# Altium integrated library Altera APEX 20KE.IntLib: 235 symbols (part 8 of 49)
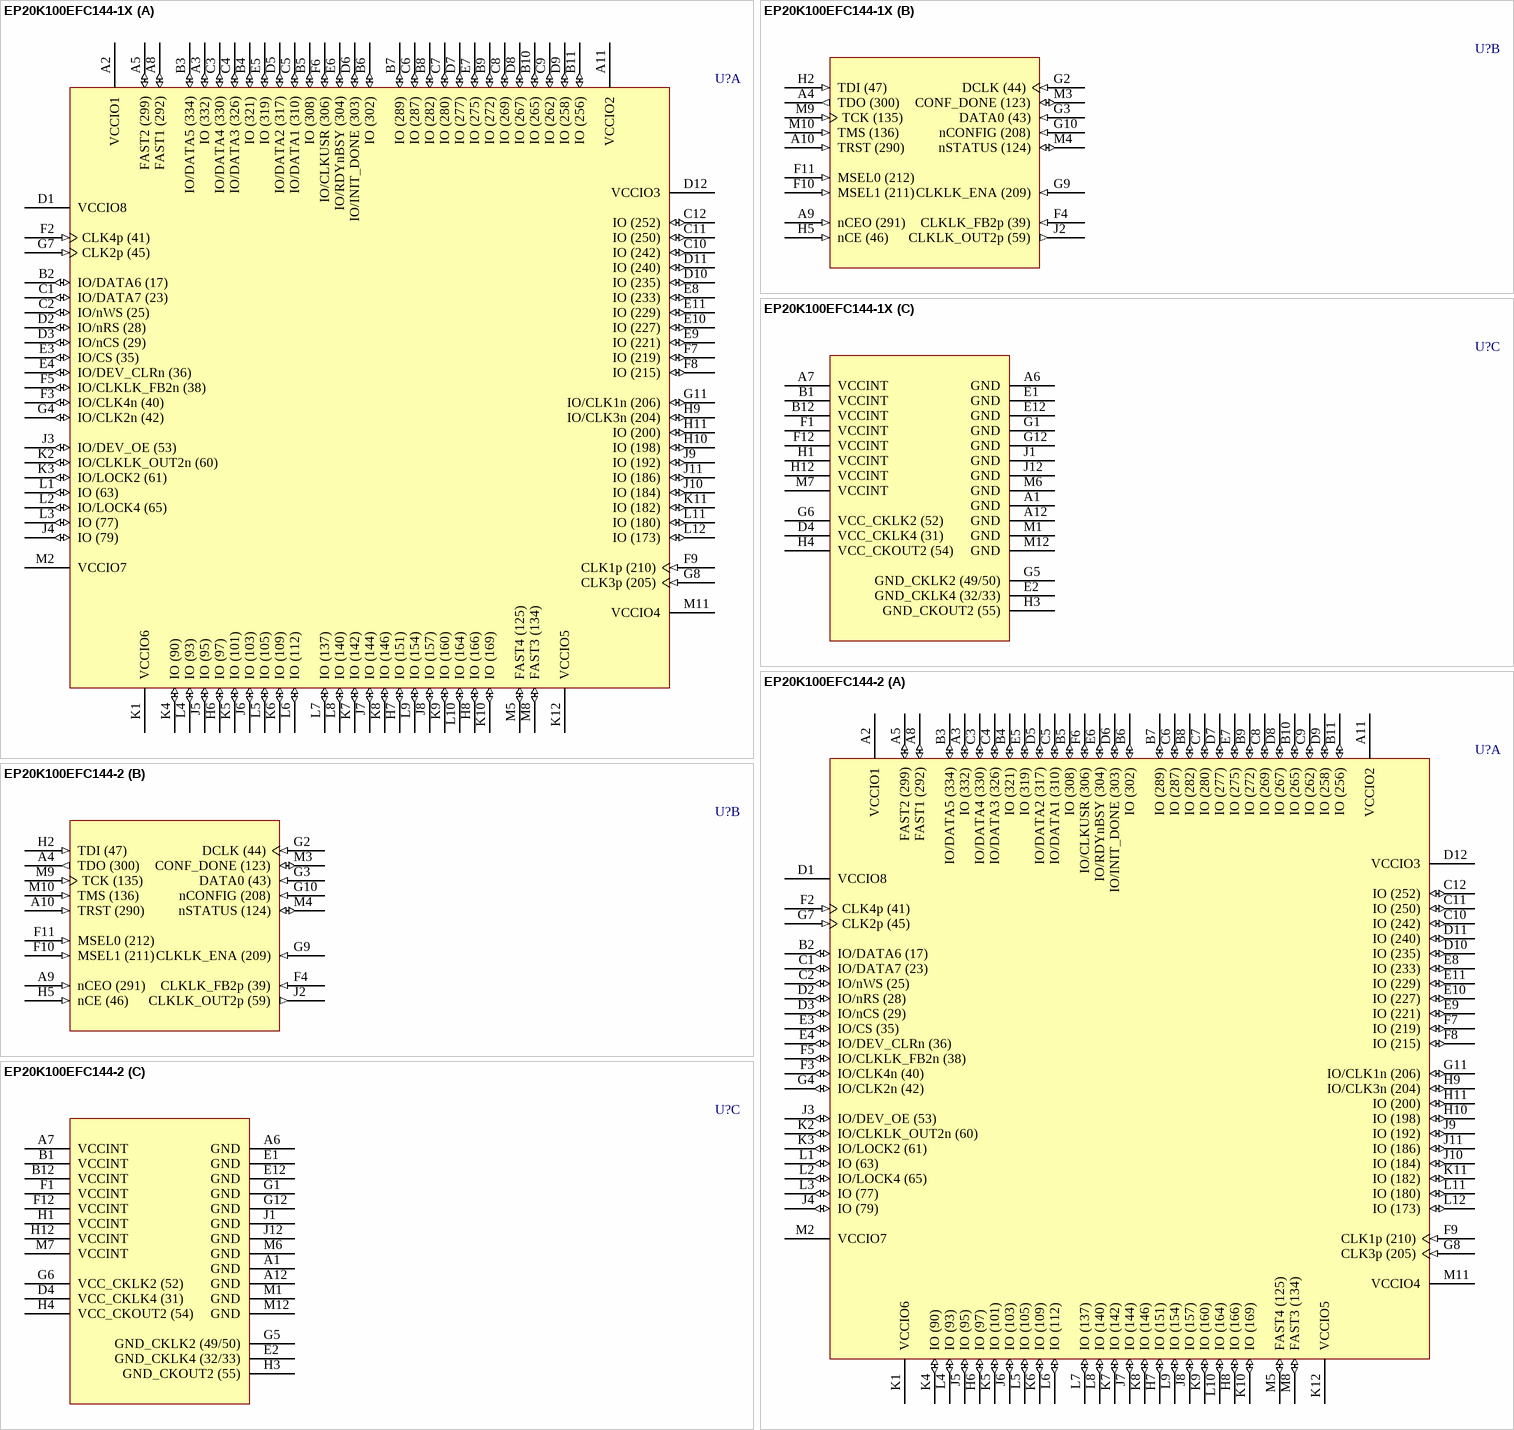
[diagram p406: symbols EP20K100EFC144-1X to EP20K100EFC144-2]

## EP20K100EFC144-2
designator U?
APEX 20K100E PLD, 144-Pin FBGA, Commercial Grade, Speed Grade 2; Published: 17-Jul-2002; LatestRevisionDate: 13-Apr-2006; LatestRevisionNote: IPC-7351 Footprint Added.; DatasheetVersion: Mar-2004; PackageVersion: ver14.1, Oct-2005; PackageReference: FBGA144; Publisher: Altium Limited; PackageDescription: 144-Ball FineLine Ball Grid Array (FBGA144); Code_JEDEC: MO-192-AAD-1; Code_IPC: BGA100P12X12-144; ComponentLink1Description: Manufacturer Link; ComponentLink1URL: http://www.altera.com/products/devices/apex/apx-index.html; ComponentLink2Description: Datasheet; ComponentLink2URL: http://www.altera.com/literature/ds/apex.pdf
footprint FBGA144 (BGA, 144-Leads, Body 13x13mm, Pitch 1mm)
3D model EP20K100E-FBGA144 (144-Ball FineLine Ball Grid Array (FBGA144))
part A pins: A2 VCCIO1 (power), A3 IO (332) (io), A5 FAST2 (299) (io), A8 FAST1 (292) (io), A11 VCCIO2 (power), B2 IO/DATA6 (17) (io), B3 IO/DATA5 (334) (io), B4 IO (321) (io), B5 IO (308) (io), B6 IO (302) (io), B7 IO (289) (io), B8 IO (282) (io), B9 IO (272) (io), B10 IO (265) (io), B11 IO (256) (io), C1 IO/DATA7 (23) (io), C2 IO/nWS (25) (io), C3 IO/DATA4 (330) (io), C4 IO/DATA3 (326) (io), C5 IO/DATA1 (310) (io), C6 IO (287) (io), C7 IO (280) (io), C8 IO (269) (io), C9 IO (262) (io), C10 IO (242) (io), C11 IO (250) (io), C12 IO (252) (io), D1 VCCIO8 (power), D2 IO/nRS (28) (io), D3 IO/nCS (29) (io), D5 IO/DATA2 (317) (io), D6 IO/INIT_DONE (303) (io), D7 IO (277) (io), D8 IO (267) (io), D9 IO (258) (io), D10 IO (235) (io), D11 IO (240) (io), D12 VCCIO3 (power), E3 IO/CS (35) (io), E4 IO/DEV_CLRn (36) (io), E5 IO (319) (io), E6 IO/RDYnBSY (304) (io), E7 IO (275) (io), E8 IO (233) (io), E9 IO (221) (io), E10 IO (227) (io), E11 IO (229) (io), F2 CLK4p (41) (in), F3 IO/CLK4n (40) (io), F5 IO/CLKLK_FB2n (38) (io), F6 IO/CLKUSR (306) (io), F7 IO (219) (io), F8 IO (215) (io), F9 CLK1p (210) (in), G4 IO/CLK2n (42) (io), G7 CLK2p (45) (in), G8 CLK3p (205) (in), G11 IO/CLK1n (206) (io), H6 IO (97) (io), H7 IO (151) (io), H8 IO (166) (io), H9 IO/CLK3n (204) (io), H10 IO (198) (io), H11 IO (200) (io), J3 IO/DEV_OE (53) (io), J4 IO (79) (io), J5 IO (95) (io), J6 IO (103) (io), J7 IO (144) (io), J8 IO (157) (io), J9 IO (192) (io), J10 IO (184) (io), J11 IO (186) (io), K1 VCCIO6 (power), K2 IO/CLKLK_OUT2n (60) (io), K3 IO/LOCK2 (61) (io), K4 IO (90) (io), K5 IO (101) (io), K6 IO (109) (io), K7 IO (142) (io), K8 IO (146) (io), K9 IO (160) (io), K10 IO (169) (io), K11 IO (182) (io), K12 VCCIO5 (power), L1 IO (63) (io), L2 IO/LOCK4 (65) (io), L3 IO (77) (io), L4 IO (93) (io), L5 IO (105) (io), L6 IO (112) (io), L7 IO (137) (io), L8 IO (140) (io), L9 IO (154) (io), L10 IO (164) (io), L11 IO (180) (io), L12 IO (173) (io), M2 VCCIO7 (power), M5 FAST4 (125) (io), M8 FAST3 (134) (io), M11 VCCIO4 (power)
part B pins: A4 TDO (300) (out), A9 nCEO (291) (in), A10 TRST (290) (in), F4 CLKLK_FB2p (39) (in), F10 MSEL1 (211) (in), F11 MSEL0 (212) (in), G2 DCLK (44) (in), G3 DATA0 (43) (in), G9 CLKLK_ENA (209) (in), G10 nCONFIG (208) (in), H2 TDI (47) (in), H5 nCE (46) (in), J2 CLKLK_OUT2p (59) (out), M3 CONF_DONE (123) (io), M4 nSTATUS (124) (io), M9 TCK (135) (in), M10 TMS (136) (in)
part C pins: A1 GND (power), A6 GND (power), A7 VCCINT (power), A12 GND (power), B1 VCCINT (power), B12 VCCINT (power), D4 VCC_CKLK4 (31) (power), E1 GND (power), E2 GND_CKLK4 (32/33) (power), E12 GND (power), F1 VCCINT (power), F12 VCCINT (power), G1 GND (power), G5 GND_CKLK2 (49/50) (power), G6 VCC_CKLK2 (52) (power), G12 GND (power), H1 VCCINT (power), H3 GND_CKOUT2 (55) (power), H4 VCC_CKOUT2 (54) (power), H12 VCCINT (power), J1 GND (power), J12 GND (power), M1 GND (power), M6 GND (power), M7 VCCINT (power), M12 GND (power)

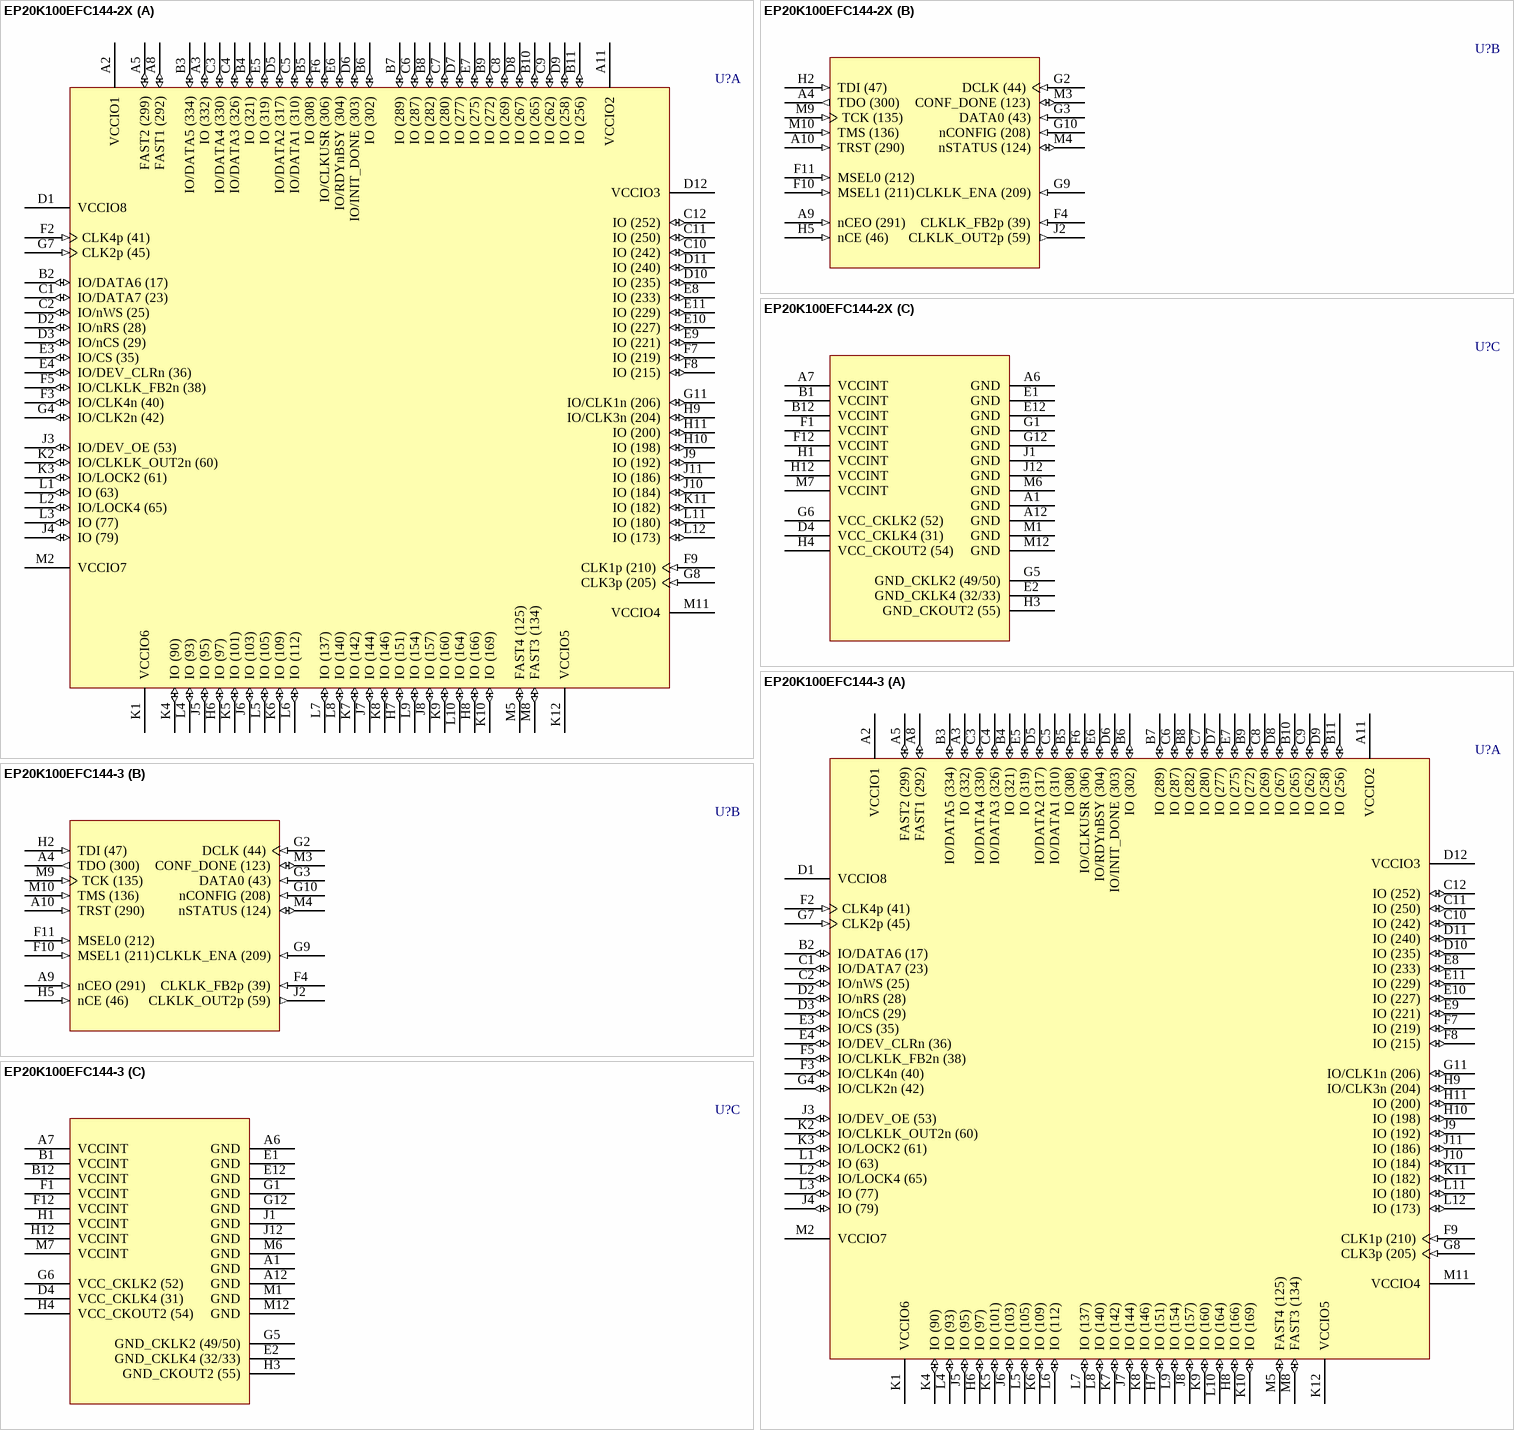
[diagram p77: symbols EP20K100EFC144-2X to EP20K100EFC144-3]

## EP20K100EFC144-2X
designator U?
APEX 20K100E PLD with PLLs and LVDS, 144-Pin FBGA, Commercial Grade, Speed Grade 2; Published: 17-Jul-2002; LatestRevisionDate: 13-Apr-2006; LatestRevisionNote: IPC-7351 Footprint Added.; DatasheetVersion: Mar-2004; PackageVersion: ver14.1, Oct-2005; PackageReference: FBGA144; Publisher: Altium Limited; PackageDescription: 144-Ball FineLine Ball Grid Array (FBGA144); Code_JEDEC: MO-192-AAD-1; Code_IPC: BGA100P12X12-144; ComponentLink1Description: Manufacturer Link; ComponentLink1URL: http://www.altera.com/products/devices/apex/apx-index.html; ComponentLink2Description: Datasheet; ComponentLink2URL: http://www.altera.com/literature/ds/apex.pdf
footprint FBGA144 (BGA, 144-Leads, Body 13x13mm, Pitch 1mm)
3D model EP20K100E-FBGA144 (144-Ball FineLine Ball Grid Array (FBGA144))
part A pins: A2 VCCIO1 (power), A3 IO (332) (io), A5 FAST2 (299) (io), A8 FAST1 (292) (io), A11 VCCIO2 (power), B2 IO/DATA6 (17) (io), B3 IO/DATA5 (334) (io), B4 IO (321) (io), B5 IO (308) (io), B6 IO (302) (io), B7 IO (289) (io), B8 IO (282) (io), B9 IO (272) (io), B10 IO (265) (io), B11 IO (256) (io), C1 IO/DATA7 (23) (io), C2 IO/nWS (25) (io), C3 IO/DATA4 (330) (io), C4 IO/DATA3 (326) (io), C5 IO/DATA1 (310) (io), C6 IO (287) (io), C7 IO (280) (io), C8 IO (269) (io), C9 IO (262) (io), C10 IO (242) (io), C11 IO (250) (io), C12 IO (252) (io), D1 VCCIO8 (power), D2 IO/nRS (28) (io), D3 IO/nCS (29) (io), D5 IO/DATA2 (317) (io), D6 IO/INIT_DONE (303) (io), D7 IO (277) (io), D8 IO (267) (io), D9 IO (258) (io), D10 IO (235) (io), D11 IO (240) (io), D12 VCCIO3 (power), E3 IO/CS (35) (io), E4 IO/DEV_CLRn (36) (io), E5 IO (319) (io), E6 IO/RDYnBSY (304) (io), E7 IO (275) (io), E8 IO (233) (io), E9 IO (221) (io), E10 IO (227) (io), E11 IO (229) (io), F2 CLK4p (41) (in), F3 IO/CLK4n (40) (io), F5 IO/CLKLK_FB2n (38) (io), F6 IO/CLKUSR (306) (io), F7 IO (219) (io), F8 IO (215) (io), F9 CLK1p (210) (in), G4 IO/CLK2n (42) (io), G7 CLK2p (45) (in), G8 CLK3p (205) (in), G11 IO/CLK1n (206) (io), H6 IO (97) (io), H7 IO (151) (io), H8 IO (166) (io), H9 IO/CLK3n (204) (io), H10 IO (198) (io), H11 IO (200) (io), J3 IO/DEV_OE (53) (io), J4 IO (79) (io), J5 IO (95) (io), J6 IO (103) (io), J7 IO (144) (io), J8 IO (157) (io), J9 IO (192) (io), J10 IO (184) (io), J11 IO (186) (io), K1 VCCIO6 (power), K2 IO/CLKLK_OUT2n (60) (io), K3 IO/LOCK2 (61) (io), K4 IO (90) (io), K5 IO (101) (io), K6 IO (109) (io), K7 IO (142) (io), K8 IO (146) (io), K9 IO (160) (io), K10 IO (169) (io), K11 IO (182) (io), K12 VCCIO5 (power), L1 IO (63) (io), L2 IO/LOCK4 (65) (io), L3 IO (77) (io), L4 IO (93) (io), L5 IO (105) (io), L6 IO (112) (io), L7 IO (137) (io), L8 IO (140) (io), L9 IO (154) (io), L10 IO (164) (io), L11 IO (180) (io), L12 IO (173) (io), M2 VCCIO7 (power), M5 FAST4 (125) (io), M8 FAST3 (134) (io), M11 VCCIO4 (power)
part B pins: A4 TDO (300) (out), A9 nCEO (291) (in), A10 TRST (290) (in), F4 CLKLK_FB2p (39) (in), F10 MSEL1 (211) (in), F11 MSEL0 (212) (in), G2 DCLK (44) (in), G3 DATA0 (43) (in), G9 CLKLK_ENA (209) (in), G10 nCONFIG (208) (in), H2 TDI (47) (in), H5 nCE (46) (in), J2 CLKLK_OUT2p (59) (out), M3 CONF_DONE (123) (io), M4 nSTATUS (124) (io), M9 TCK (135) (in), M10 TMS (136) (in)
part C pins: A1 GND (power), A6 GND (power), A7 VCCINT (power), A12 GND (power), B1 VCCINT (power), B12 VCCINT (power), D4 VCC_CKLK4 (31) (power), E1 GND (power), E2 GND_CKLK4 (32/33) (power), E12 GND (power), F1 VCCINT (power), F12 VCCINT (power), G1 GND (power), G5 GND_CKLK2 (49/50) (power), G6 VCC_CKLK2 (52) (power), G12 GND (power), H1 VCCINT (power), H3 GND_CKOUT2 (55) (power), H4 VCC_CKOUT2 (54) (power), H12 VCCINT (power), J1 GND (power), J12 GND (power), M1 GND (power), M6 GND (power), M7 VCCINT (power), M12 GND (power)

## EP20K100EFC144-3
designator U?
APEX 20K100E PLD, 144-Pin FBGA, Commercial Grade, Speed Grade 3; Published: 17-Jul-2002; LatestRevisionDate: 13-Apr-2006; LatestRevisionNote: IPC-7351 Footprint Added.; DatasheetVersion: Mar-2004; PackageVersion: ver14.1, Oct-2005; PackageReference: FBGA144; Publisher: Altium Limited; PackageDescription: 144-Ball FineLine Ball Grid Array (FBGA144); Code_JEDEC: MO-192-AAD-1; Code_IPC: BGA100P12X12-144; ComponentLink1Description: Manufacturer Link; ComponentLink1URL: http://www.altera.com/products/devices/apex/apx-index.html; ComponentLink2Description: Datasheet; ComponentLink2URL: http://www.altera.com/literature/ds/apex.pdf
footprint FBGA144 (BGA, 144-Leads, Body 13x13mm, Pitch 1mm)
3D model EP20K100E-FBGA144 (144-Ball FineLine Ball Grid Array (FBGA144))
part A pins: A2 VCCIO1 (power), A3 IO (332) (io), A5 FAST2 (299) (io), A8 FAST1 (292) (io), A11 VCCIO2 (power), B2 IO/DATA6 (17) (io), B3 IO/DATA5 (334) (io), B4 IO (321) (io), B5 IO (308) (io), B6 IO (302) (io), B7 IO (289) (io), B8 IO (282) (io), B9 IO (272) (io), B10 IO (265) (io), B11 IO (256) (io), C1 IO/DATA7 (23) (io), C2 IO/nWS (25) (io), C3 IO/DATA4 (330) (io), C4 IO/DATA3 (326) (io), C5 IO/DATA1 (310) (io), C6 IO (287) (io), C7 IO (280) (io), C8 IO (269) (io), C9 IO (262) (io), C10 IO (242) (io), C11 IO (250) (io), C12 IO (252) (io), D1 VCCIO8 (power), D2 IO/nRS (28) (io), D3 IO/nCS (29) (io), D5 IO/DATA2 (317) (io), D6 IO/INIT_DONE (303) (io), D7 IO (277) (io), D8 IO (267) (io), D9 IO (258) (io), D10 IO (235) (io), D11 IO (240) (io), D12 VCCIO3 (power), E3 IO/CS (35) (io), E4 IO/DEV_CLRn (36) (io), E5 IO (319) (io), E6 IO/RDYnBSY (304) (io), E7 IO (275) (io), E8 IO (233) (io), E9 IO (221) (io), E10 IO (227) (io), E11 IO (229) (io), F2 CLK4p (41) (in), F3 IO/CLK4n (40) (io), F5 IO/CLKLK_FB2n (38) (io), F6 IO/CLKUSR (306) (io), F7 IO (219) (io), F8 IO (215) (io), F9 CLK1p (210) (in), G4 IO/CLK2n (42) (io), G7 CLK2p (45) (in), G8 CLK3p (205) (in), G11 IO/CLK1n (206) (io), H6 IO (97) (io), H7 IO (151) (io), H8 IO (166) (io), H9 IO/CLK3n (204) (io), H10 IO (198) (io), H11 IO (200) (io), J3 IO/DEV_OE (53) (io), J4 IO (79) (io), J5 IO (95) (io), J6 IO (103) (io), J7 IO (144) (io), J8 IO (157) (io), J9 IO (192) (io), J10 IO (184) (io), J11 IO (186) (io), K1 VCCIO6 (power), K2 IO/CLKLK_OUT2n (60) (io), K3 IO/LOCK2 (61) (io), K4 IO (90) (io), K5 IO (101) (io), K6 IO (109) (io), K7 IO (142) (io), K8 IO (146) (io), K9 IO (160) (io), K10 IO (169) (io), K11 IO (182) (io), K12 VCCIO5 (power), L1 IO (63) (io), L2 IO/LOCK4 (65) (io), L3 IO (77) (io), L4 IO (93) (io), L5 IO (105) (io), L6 IO (112) (io), L7 IO (137) (io), L8 IO (140) (io), L9 IO (154) (io), L10 IO (164) (io), L11 IO (180) (io), L12 IO (173) (io), M2 VCCIO7 (power), M5 FAST4 (125) (io), M8 FAST3 (134) (io), M11 VCCIO4 (power)
part B pins: A4 TDO (300) (out), A9 nCEO (291) (in), A10 TRST (290) (in), F4 CLKLK_FB2p (39) (in), F10 MSEL1 (211) (in), F11 MSEL0 (212) (in), G2 DCLK (44) (in), G3 DATA0 (43) (in), G9 CLKLK_ENA (209) (in), G10 nCONFIG (208) (in), H2 TDI (47) (in), H5 nCE (46) (in), J2 CLKLK_OUT2p (59) (out), M3 CONF_DONE (123) (io), M4 nSTATUS (124) (io), M9 TCK (135) (in), M10 TMS (136) (in)
part C pins: A1 GND (power), A6 GND (power), A7 VCCINT (power), A12 GND (power), B1 VCCINT (power), B12 VCCINT (power), D4 VCC_CKLK4 (31) (power), E1 GND (power), E2 GND_CKLK4 (32/33) (power), E12 GND (power), F1 VCCINT (power), F12 VCCINT (power), G1 GND (power), G5 GND_CKLK2 (49/50) (power), G6 VCC_CKLK2 (52) (power), G12 GND (power), H1 VCCINT (power), H3 GND_CKOUT2 (55) (power), H4 VCC_CKOUT2 (54) (power), H12 VCCINT (power), J1 GND (power), J12 GND (power), M1 GND (power), M6 GND (power), M7 VCCINT (power), M12 GND (power)

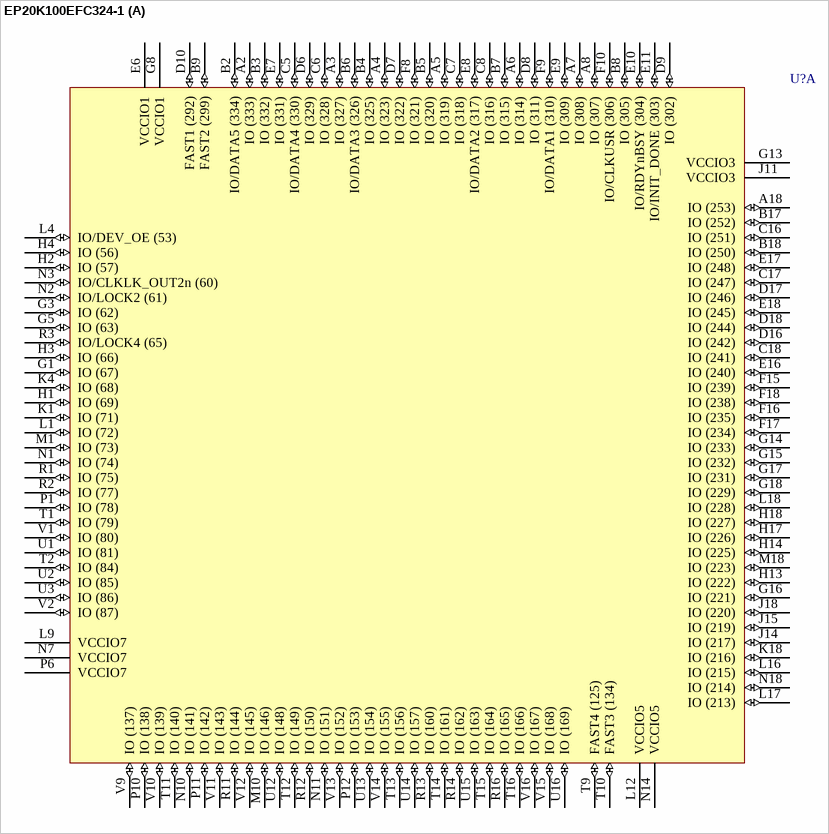
[diagram p78: symbol EP20K100EFC324-1]

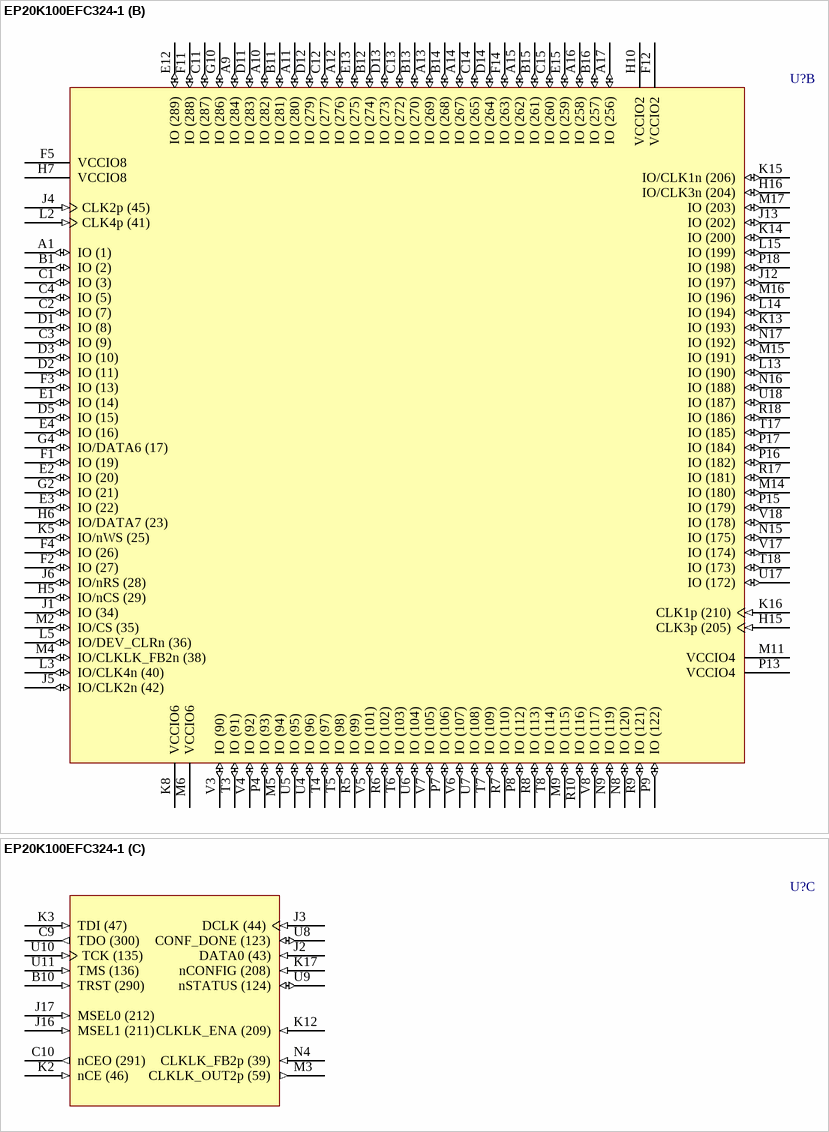
[diagram p79: symbol EP20K100EFC324-1]

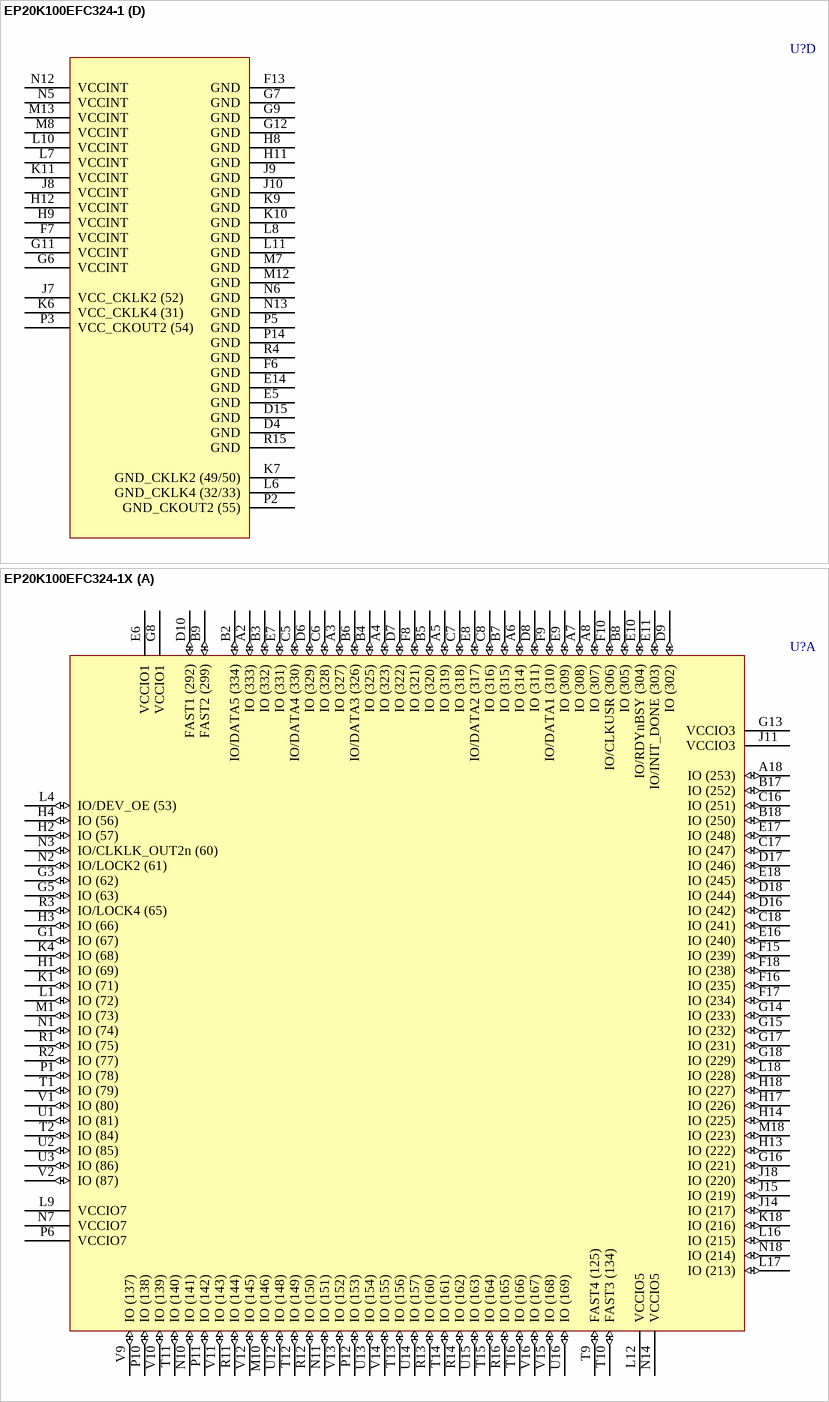
[diagram p80: symbols EP20K100EFC324-1 to EP20K100EFC324-1X]

## EP20K100EFC324-1
designator U?
APEX 20K100E PLD, 324-Pin FBGA, Commercial Grade, Speed Grade 1; Published: 17-Jul-2002; LatestRevisionDate: 13-Apr-2006; LatestRevisionNote: IPC-7351 Footprint Added.; DatasheetVersion: Mar-2004; PackageVersion: ver14.1, Oct-2005; PackageReference: FBGA324; Publisher: Altium Limited; PackageDescription: 324-Ball FineLine Ball Grid Array (FBGA324); Code_JEDEC: MS-034-AAG-1; Code_IPC: BGA100P18X18-324; ComponentLink1Description: Manufacturer Link; ComponentLink1URL: http://www.altera.com/products/devices/apex/apx-index.html; ComponentLink2Description: Datasheet; ComponentLink2URL: http://www.altera.com/literature/ds/apex.pdf
footprint FBGA324 (BGA, 324-Leads, Body 19x19mm, Pitch 1mm)
3D model EP20K100E-FBGA324 (324-Ball FineLine Ball Grid Array (FBGA324))
part A pins: A2 IO (333) (io), A3 IO (327) (io), A4 IO (323) (io), A5 IO (319) (io), A6 IO (314) (io), A7 IO (308) (io), A8 IO (307) (io), A18 IO (253) (io), B2 IO/DATA5 (334) (io), B3 IO (332) (io), B4 IO (325) (io), B5 IO (320) (io), B6 IO/DATA3 (326) (io), B7 IO (315) (io), B8 IO (305) (io), B9 FAST2 (299) (io), B17 IO (252) (io), B18 IO (250) (io), C5 IO/DATA4 (330) (io), C6 IO (328) (io), C7 IO (318) (io), C8 IO (316) (io), C16 IO (251) (io), C17 IO (247) (io), C18 IO (241) (io), D6 IO (329) (io), D7 IO (322) (io), D8 IO (311) (io), D9 IO (302) (io), D10 FAST1 (292) (io), D16 IO (242) (io), D17 IO (246) (io), D18 IO (244) (io), E6 VCCIO1 (power), E7 IO (331) (io), E8 IO/DATA2 (317) (io), E9 IO (309) (io), E10 IO/RDYnBSY (304) (io), E11 IO/INIT_DONE (303) (io), E16 IO (240) (io), E17 IO (248) (io), E18 IO (245) (io), F8 IO (321) (io), F9 IO/DATA1 (310) (io), F10 IO/CLKUSR (306) (io), F15 IO (239) (io), F16 IO (235) (io), F17 IO (234) (io), F18 IO (238) (io), G1 IO (67) (io), G3 IO (62) (io), G5 IO (63) (io), G8 VCCIO1 (power), G13 VCCIO3 (power), G14 IO (233) (io), G15 IO (232) (io), G16 IO (221) (io), G17 IO (231) (io), G18 IO (229) (io), H1 IO (69) (io), H2 IO (57) (io), H3 IO (66) (io), H4 IO (56) (io), H13 IO (222) (io), H14 IO (225) (io), H17 IO (226) (io), H18 IO (227) (io), J11 VCCIO3 (power), J14 IO (217) (io), J15 IO (219) (io), J18 IO (220) (io), K1 IO (71) (io), K4 IO (68) (io), K18 IO (216) (io), L1 IO (72) (io), L4 IO/DEV_OE (53) (io), L9 VCCIO7 (power), L12 VCCIO5 (power), L16 IO (215) (io), L17 IO (213) (io), L18 IO (228) (io), M1 IO (73) (io), M10 IO (146) (io), M18 IO (223) (io), N1 IO (74) (io), N2 IO/LOCK2 (61) (io), N3 IO/CLKLK_OUT2n (60) (io), N7 VCCIO7 (power), N10 IO (141) (io), N11 IO (151) (io), N14 VCCIO5 (power), N18 IO (214) (io), P1 IO (78) (io), P6 VCCIO7 (power), P10 IO (138) (io), P11 IO (142) (io), P12 IO (153) (io), R1 IO (75) (io), R2 IO (77) (io), R3 IO/LOCK4 (65) (io), R11 IO (144) (io), R12 IO (150) (io), R13 IO (160) (io), R14 IO (162) (io), R16 IO (165) (io), T1 IO (79) (io), T2 IO (84) (io), T9 FAST4 (125) (io), T10 FAST3 (134) (io), T11 IO (140) (io), T12 IO (149) (io), T13 IO (156) (io), T14 IO (161) (io), T15 IO (164) (io), T16 IO (166) (io), U1 IO (81) (io), U2 IO (85) (io), U3 IO (86) (io), U12 IO (148) (io), U13 IO (154) (io), U14 IO (157) (io), U15 IO (163) (io), U16 IO (169) (io), V1 IO (80) (io), V2 IO (87) (io), V9 IO (137) (io), V10 IO (139) (io), V11 IO (143) (io), V12 IO (145) (io), V13 IO (152) (io), V14 IO (155) (io), V15 IO (168) (io), V16 IO (167) (io)
part B pins: A1 IO (1) (io), A9 IO (284) (io), A10 IO (282) (io), A11 IO (280) (io), A12 IO (276) (io), A13 IO (269) (io), A14 IO (267) (io), A15 IO (262) (io), A16 IO (258) (io), A17 IO (256) (io), B1 IO (2) (io), B11 IO (281) (io), B12 IO (274) (io), B13 IO (270) (io), B14 IO (268) (io), B15 IO (261) (io), B16 IO (257) (io), C1 IO (3) (io), C2 IO (7) (io), C3 IO (9) (io), C4 IO (5) (io), C11 IO (287) (io), C12 IO (277) (io), C13 IO (272) (io), C14 IO (265) (io), C15 IO (260) (io), D1 IO (8) (io), D2 IO (11) (io), D3 IO (10) (io), D5 IO (15) (io), D11 IO (283) (io), D12 IO (279) (io), D13 IO (273) (io), D14 IO (264) (io), E1 IO (14) (io), E2 IO (20) (io), E3 IO (22) (io), E4 IO (16) (io), E12 IO (289) (io), E13 IO (275) (io), E15 IO (259) (io), F1 IO (19) (io), F2 IO (27) (io), F3 IO (13) (io), F4 IO (26) (io), F5 VCCIO8 (power), F11 IO (288) (io), F12 VCCIO2 (power), F14 IO (263) (io), G2 IO (21) (io), G4 IO/DATA6 (17) (io), G10 IO (286) (io), H5 IO/nCS (29) (io), H6 IO/DATA7 (23) (io), H7 VCCIO8 (power), H10 VCCIO2 (power), H15 CLK3p (205) (in), H16 IO/CLK3n (204) (io), J1 IO (34) (io), J4 CLK2p (45) (in), J5 IO/CLK2n (42) (io), J6 IO/nRS (28) (io), J12 IO (197) (io), J13 IO (202) (io), K5 IO/nWS (25) (io), K8 VCCIO6 (power), K13 IO (193) (io), K14 IO (200) (io), K15 IO/CLK1n (206) (io), K16 CLK1p (210) (in), L2 CLK4p (41) (in), L3 IO/CLK4n (40) (io), L5 IO/DEV_CLRn (36) (io), L13 IO (190) (io), L14 IO (194) (io), L15 IO (199) (io), M2 IO/CS (35) (io), M4 IO/CLKLK_FB2n (38) (io), M5 IO (94) (io), M6 VCCIO6 (power), M9 IO (115) (io), M11 VCCIO4 (power), M14 IO (180) (io), M15 IO (191) (io), M16 IO (196) (io), M17 IO (203) (io), N8 IO (120) (io), N9 IO (119) (io), N15 IO (175) (io), N16 IO (188) (io), N17 IO (192) (io), P4 IO (93) (io), P7 IO (106) (io), P8 IO (112) (io), P9 IO (122) (io), P13 VCCIO4 (power), P15 IO (179) (io), P16 IO (182) (io), P17 IO (184) (io), P18 IO (198) (io), R5 IO (99) (io), R6 IO (102) (io), R7 IO (110) (io), R8 IO (113) (io), R9 IO (121) (io), R10 IO (116) (io), R17 IO (181) (io), R18 IO (186) (io), T3 IO (91) (io), T4 IO (97) (io), T5 IO (98) (io), T6 IO (103) (io), T7 IO (109) (io), T8 IO (114) (io), T17 IO (185) (io), T18 IO (173) (io), U4 IO (96) (io), U5 IO (95) (io), U6 IO (104) (io), U7 IO (108) (io), U17 IO (172) (io), U18 IO (187) (io), V3 IO (90) (io), V4 IO (92) (io), V5 IO (101) (io), V6 IO (107) (io), V7 IO (105) (io), V8 IO (117) (io), V17 IO (174) (io), V18 IO (178) (io)
part C pins: B10 TRST (290) (in), C9 TDO (300) (out), C10 nCEO (291) (out), J2 DATA0 (43) (in), J3 DCLK (44) (in), J16 MSEL1 (211) (in), J17 MSEL0 (212) (in), K2 nCE (46) (in), K3 TDI (47) (in), K12 CLKLK_ENA (209) (in), K17 nCONFIG (208) (in), M3 CLKLK_OUT2p (59) (out), N4 CLKLK_FB2p (39) (in), U8 CONF_DONE (123) (io), U9 nSTATUS (124) (io), U10 TCK (135) (in), U11 TMS (136) (in)
part D pins: D4 GND (power), D15 GND (power), E5 GND (power), E14 GND (power), F6 GND (power), F7 VCCINT (power), F13 GND (power), G6 VCCINT (power), G7 GND (power), G9 GND (power), G11 VCCINT (power), G12 GND (power), H8 GND (power), H9 VCCINT (power), H11 GND (power), H12 VCCINT (power), J7 VCC_CKLK2 (52) (power), J8 VCCINT (power), J9 GND (power), J10 GND (power), K6 VCC_CKLK4 (31) (power), K7 GND_CKLK2 (49/50) (power), K9 GND (power), K10 GND (power), K11 VCCINT (power), L6 GND_CKLK4 (32/33) (power), L7 VCCINT (power), L8 GND (power), L10 VCCINT (power), L11 GND (power), M7 GND (power), M8 VCCINT (power), M12 GND (power), M13 VCCINT (power), N5 VCCINT (power), N6 GND (power), N12 VCCINT (power), N13 GND (power), P2 GND_CKOUT2 (55) (power), P3 VCC_CKOUT2 (54) (power), P5 GND (power), P14 GND (power), R4 GND (power), R15 GND (power)

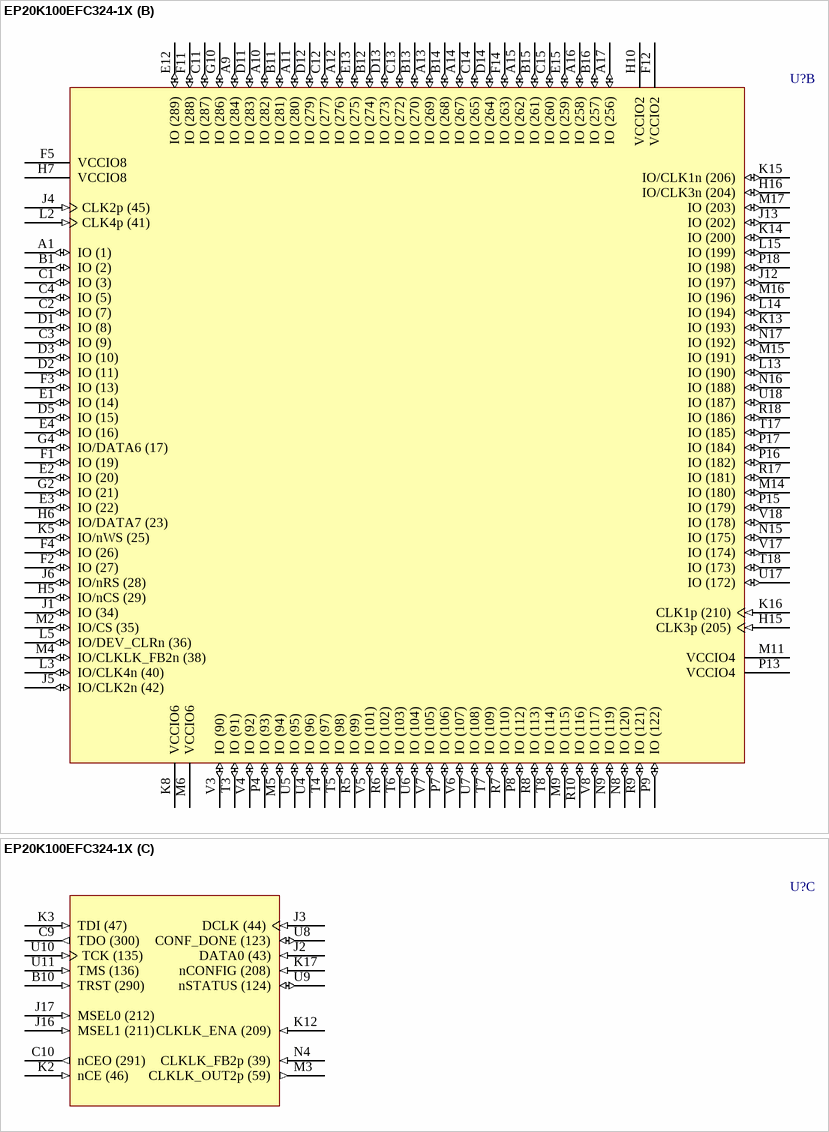
[diagram p81: symbol EP20K100EFC324-1X]

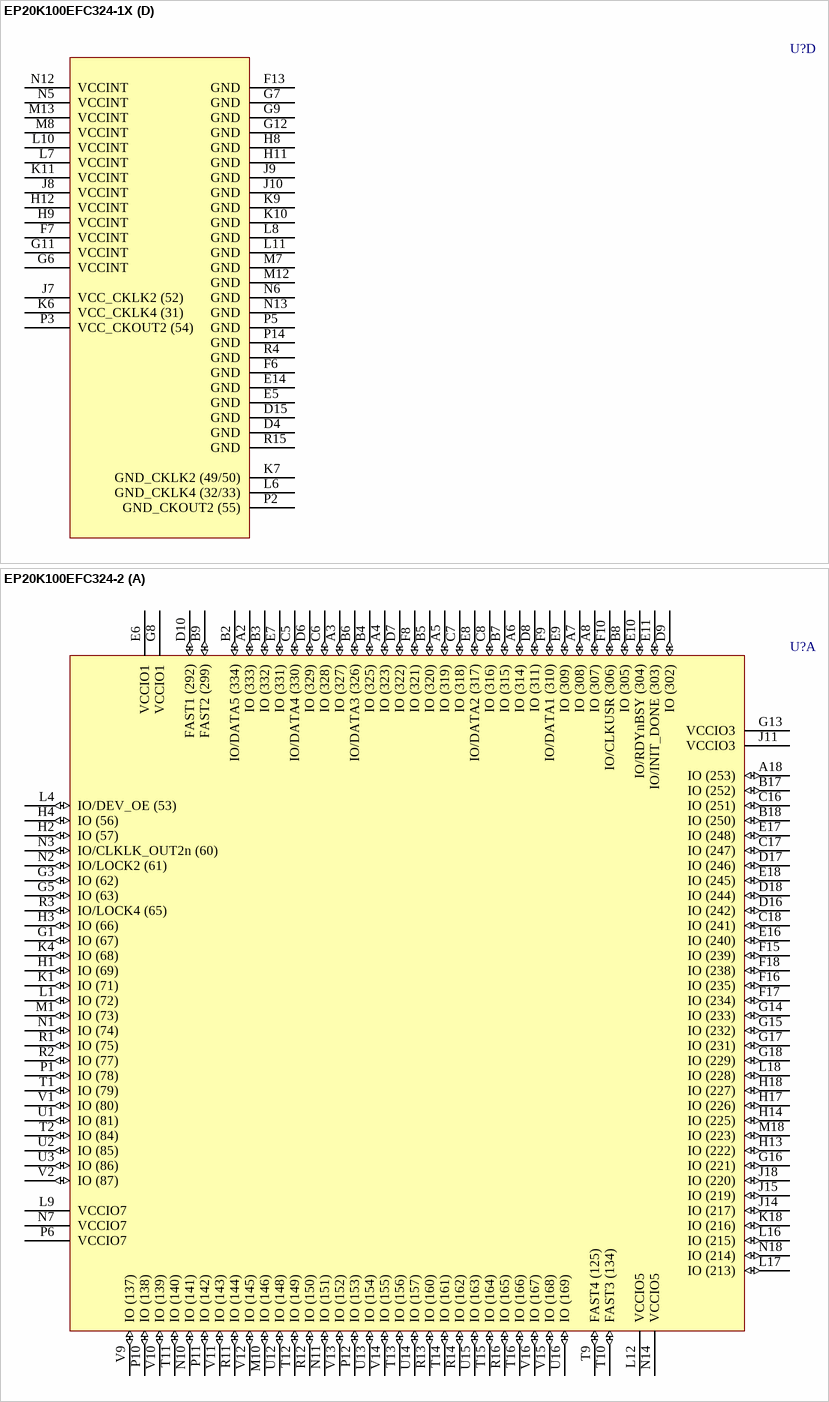
[diagram p82: symbols EP20K100EFC324-1X to EP20K100EFC324-2]

## EP20K100EFC324-1X
designator U?
APEX 20K100E PLD with PLLs and LVDS, 324-Pin FBGA, Commercial Grade, Speed Grade 1; Published: 17-Jul-2002; LatestRevisionDate: 13-Apr-2006; LatestRevisionNote: IPC-7351 Footprint Added.; DatasheetVersion: Mar-2004; PackageVersion: ver14.1, Oct-2005; PackageReference: FBGA324; Publisher: Altium Limited; PackageDescription: 324-Ball FineLine Ball Grid Array (FBGA324); Code_JEDEC: MS-034-AAG-1; Code_IPC: BGA100P18X18-324; ComponentLink1Description: Manufacturer Link; ComponentLink1URL: http://www.altera.com/products/devices/apex/apx-index.html; ComponentLink2Description: Datasheet; ComponentLink2URL: http://www.altera.com/literature/ds/apex.pdf
footprint FBGA324 (BGA, 324-Leads, Body 19x19mm, Pitch 1mm)
3D model EP20K100E-FBGA324 (324-Ball FineLine Ball Grid Array (FBGA324))
part A pins: A2 IO (333) (io), A3 IO (327) (io), A4 IO (323) (io), A5 IO (319) (io), A6 IO (314) (io), A7 IO (308) (io), A8 IO (307) (io), A18 IO (253) (io), B2 IO/DATA5 (334) (io), B3 IO (332) (io), B4 IO (325) (io), B5 IO (320) (io), B6 IO/DATA3 (326) (io), B7 IO (315) (io), B8 IO (305) (io), B9 FAST2 (299) (io), B17 IO (252) (io), B18 IO (250) (io), C5 IO/DATA4 (330) (io), C6 IO (328) (io), C7 IO (318) (io), C8 IO (316) (io), C16 IO (251) (io), C17 IO (247) (io), C18 IO (241) (io), D6 IO (329) (io), D7 IO (322) (io), D8 IO (311) (io), D9 IO (302) (io), D10 FAST1 (292) (io), D16 IO (242) (io), D17 IO (246) (io), D18 IO (244) (io), E6 VCCIO1 (power), E7 IO (331) (io), E8 IO/DATA2 (317) (io), E9 IO (309) (io), E10 IO/RDYnBSY (304) (io), E11 IO/INIT_DONE (303) (io), E16 IO (240) (io), E17 IO (248) (io), E18 IO (245) (io), F8 IO (321) (io), F9 IO/DATA1 (310) (io), F10 IO/CLKUSR (306) (io), F15 IO (239) (io), F16 IO (235) (io), F17 IO (234) (io), F18 IO (238) (io), G1 IO (67) (io), G3 IO (62) (io), G5 IO (63) (io), G8 VCCIO1 (power), G13 VCCIO3 (power), G14 IO (233) (io), G15 IO (232) (io), G16 IO (221) (io), G17 IO (231) (io), G18 IO (229) (io), H1 IO (69) (io), H2 IO (57) (io), H3 IO (66) (io), H4 IO (56) (io), H13 IO (222) (io), H14 IO (225) (io), H17 IO (226) (io), H18 IO (227) (io), J11 VCCIO3 (power), J14 IO (217) (io), J15 IO (219) (io), J18 IO (220) (io), K1 IO (71) (io), K4 IO (68) (io), K18 IO (216) (io), L1 IO (72) (io), L4 IO/DEV_OE (53) (io), L9 VCCIO7 (power), L12 VCCIO5 (power), L16 IO (215) (io), L17 IO (213) (io), L18 IO (228) (io), M1 IO (73) (io), M10 IO (146) (io), M18 IO (223) (io), N1 IO (74) (io), N2 IO/LOCK2 (61) (io), N3 IO/CLKLK_OUT2n (60) (io), N7 VCCIO7 (power), N10 IO (141) (io), N11 IO (151) (io), N14 VCCIO5 (power), N18 IO (214) (io), P1 IO (78) (io), P6 VCCIO7 (power), P10 IO (138) (io), P11 IO (142) (io), P12 IO (153) (io), R1 IO (75) (io), R2 IO (77) (io), R3 IO/LOCK4 (65) (io), R11 IO (144) (io), R12 IO (150) (io), R13 IO (160) (io), R14 IO (162) (io), R16 IO (165) (io), T1 IO (79) (io), T2 IO (84) (io), T9 FAST4 (125) (io), T10 FAST3 (134) (io), T11 IO (140) (io), T12 IO (149) (io), T13 IO (156) (io), T14 IO (161) (io), T15 IO (164) (io), T16 IO (166) (io), U1 IO (81) (io), U2 IO (85) (io), U3 IO (86) (io), U12 IO (148) (io), U13 IO (154) (io), U14 IO (157) (io), U15 IO (163) (io), U16 IO (169) (io), V1 IO (80) (io), V2 IO (87) (io), V9 IO (137) (io), V10 IO (139) (io), V11 IO (143) (io), V12 IO (145) (io), V13 IO (152) (io), V14 IO (155) (io), V15 IO (168) (io), V16 IO (167) (io)
part B pins: A1 IO (1) (io), A9 IO (284) (io), A10 IO (282) (io), A11 IO (280) (io), A12 IO (276) (io), A13 IO (269) (io), A14 IO (267) (io), A15 IO (262) (io), A16 IO (258) (io), A17 IO (256) (io), B1 IO (2) (io), B11 IO (281) (io), B12 IO (274) (io), B13 IO (270) (io), B14 IO (268) (io), B15 IO (261) (io), B16 IO (257) (io), C1 IO (3) (io), C2 IO (7) (io), C3 IO (9) (io), C4 IO (5) (io), C11 IO (287) (io), C12 IO (277) (io), C13 IO (272) (io), C14 IO (265) (io), C15 IO (260) (io), D1 IO (8) (io), D2 IO (11) (io), D3 IO (10) (io), D5 IO (15) (io), D11 IO (283) (io), D12 IO (279) (io), D13 IO (273) (io), D14 IO (264) (io), E1 IO (14) (io), E2 IO (20) (io), E3 IO (22) (io), E4 IO (16) (io), E12 IO (289) (io), E13 IO (275) (io), E15 IO (259) (io), F1 IO (19) (io), F2 IO (27) (io), F3 IO (13) (io), F4 IO (26) (io), F5 VCCIO8 (power), F11 IO (288) (io), F12 VCCIO2 (power), F14 IO (263) (io), G2 IO (21) (io), G4 IO/DATA6 (17) (io), G10 IO (286) (io), H5 IO/nCS (29) (io), H6 IO/DATA7 (23) (io), H7 VCCIO8 (power), H10 VCCIO2 (power), H15 CLK3p (205) (in), H16 IO/CLK3n (204) (io), J1 IO (34) (io), J4 CLK2p (45) (in), J5 IO/CLK2n (42) (io), J6 IO/nRS (28) (io), J12 IO (197) (io), J13 IO (202) (io), K5 IO/nWS (25) (io), K8 VCCIO6 (power), K13 IO (193) (io), K14 IO (200) (io), K15 IO/CLK1n (206) (io), K16 CLK1p (210) (in), L2 CLK4p (41) (in), L3 IO/CLK4n (40) (io), L5 IO/DEV_CLRn (36) (io), L13 IO (190) (io), L14 IO (194) (io), L15 IO (199) (io), M2 IO/CS (35) (io), M4 IO/CLKLK_FB2n (38) (io), M5 IO (94) (io), M6 VCCIO6 (power), M9 IO (115) (io), M11 VCCIO4 (power), M14 IO (180) (io), M15 IO (191) (io), M16 IO (196) (io), M17 IO (203) (io), N8 IO (120) (io), N9 IO (119) (io), N15 IO (175) (io), N16 IO (188) (io), N17 IO (192) (io), P4 IO (93) (io), P7 IO (106) (io), P8 IO (112) (io), P9 IO (122) (io), P13 VCCIO4 (power), P15 IO (179) (io), P16 IO (182) (io), P17 IO (184) (io), P18 IO (198) (io), R5 IO (99) (io), R6 IO (102) (io), R7 IO (110) (io), R8 IO (113) (io), R9 IO (121) (io), R10 IO (116) (io), R17 IO (181) (io), R18 IO (186) (io), T3 IO (91) (io), T4 IO (97) (io), T5 IO (98) (io), T6 IO (103) (io), T7 IO (109) (io), T8 IO (114) (io), T17 IO (185) (io), T18 IO (173) (io), U4 IO (96) (io), U5 IO (95) (io), U6 IO (104) (io), U7 IO (108) (io), U17 IO (172) (io), U18 IO (187) (io), V3 IO (90) (io), V4 IO (92) (io), V5 IO (101) (io), V6 IO (107) (io), V7 IO (105) (io), V8 IO (117) (io), V17 IO (174) (io), V18 IO (178) (io)
part C pins: B10 TRST (290) (in), C9 TDO (300) (out), C10 nCEO (291) (out), J2 DATA0 (43) (in), J3 DCLK (44) (in), J16 MSEL1 (211) (in), J17 MSEL0 (212) (in), K2 nCE (46) (in), K3 TDI (47) (in), K12 CLKLK_ENA (209) (in), K17 nCONFIG (208) (in), M3 CLKLK_OUT2p (59) (out), N4 CLKLK_FB2p (39) (in), U8 CONF_DONE (123) (io), U9 nSTATUS (124) (io), U10 TCK (135) (in), U11 TMS (136) (in)
part D pins: D4 GND (power), D15 GND (power), E5 GND (power), E14 GND (power), F6 GND (power), F7 VCCINT (power), F13 GND (power), G6 VCCINT (power), G7 GND (power), G9 GND (power), G11 VCCINT (power), G12 GND (power), H8 GND (power), H9 VCCINT (power), H11 GND (power), H12 VCCINT (power), J7 VCC_CKLK2 (52) (power), J8 VCCINT (power), J9 GND (power), J10 GND (power), K6 VCC_CKLK4 (31) (power), K7 GND_CKLK2 (49/50) (power), K9 GND (power), K10 GND (power), K11 VCCINT (power), L6 GND_CKLK4 (32/33) (power), L7 VCCINT (power), L8 GND (power), L10 VCCINT (power), L11 GND (power), M7 GND (power), M8 VCCINT (power), M12 GND (power), M13 VCCINT (power), N5 VCCINT (power), N6 GND (power), N12 VCCINT (power), N13 GND (power), P2 GND_CKOUT2 (55) (power), P3 VCC_CKOUT2 (54) (power), P5 GND (power), P14 GND (power), R4 GND (power), R15 GND (power)

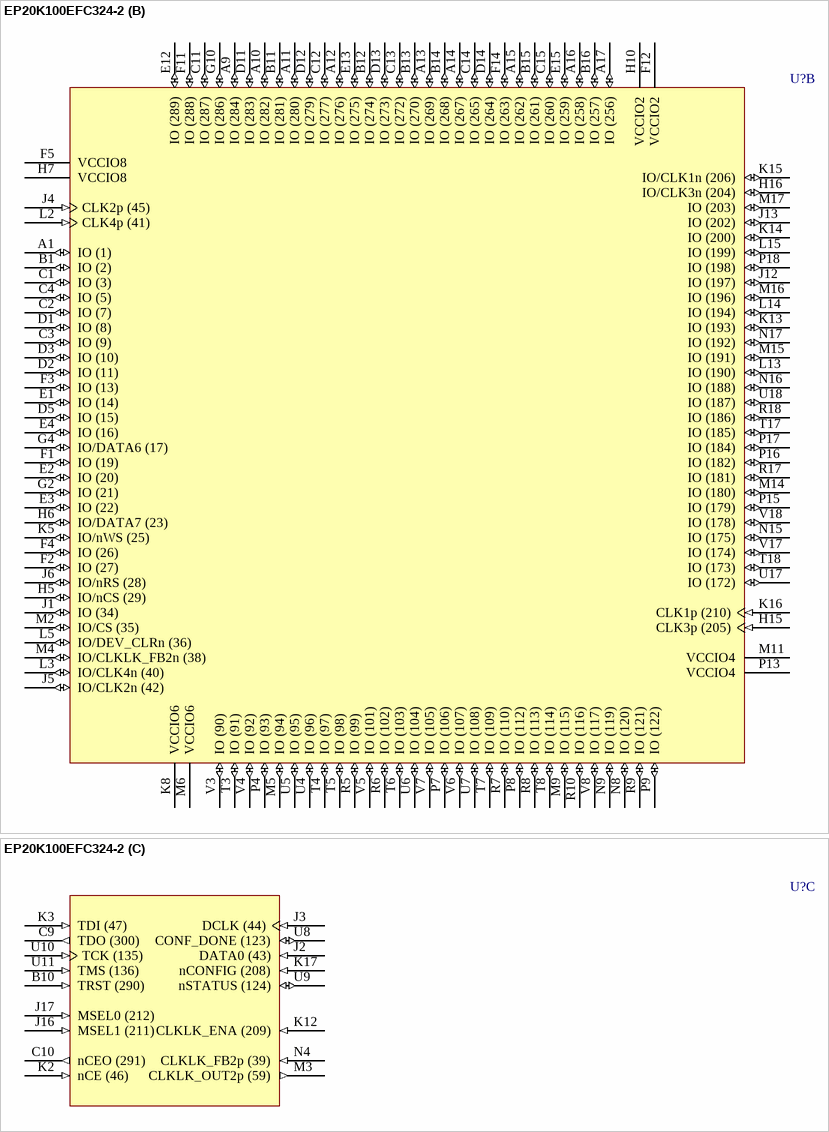
[diagram p83: symbol EP20K100EFC324-2]

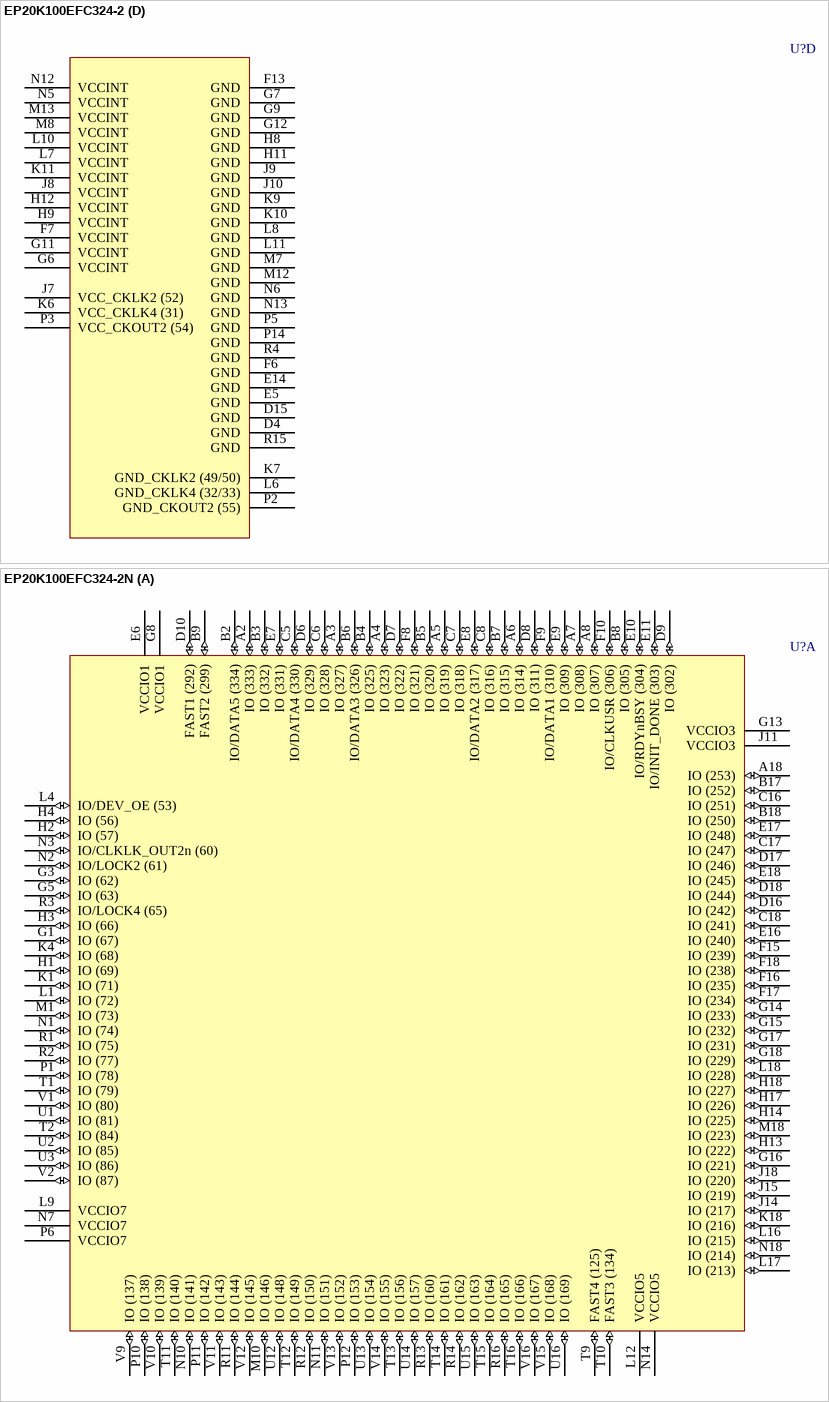
[diagram p84: symbols EP20K100EFC324-2 to EP20K100EFC324-2N]

## EP20K100EFC324-2
designator U?
APEX 20K100E PLD, 324-Pin FBGA, Commercial Grade, Speed Grade 2; Published: 17-Jul-2002; LatestRevisionDate: 13-Apr-2006; LatestRevisionNote: IPC-7351 Footprint Added.; DatasheetVersion: Mar-2004; PackageVersion: ver14.1, Oct-2005; PackageReference: FBGA324; Publisher: Altium Limited; PackageDescription: 324-Ball FineLine Ball Grid Array (FBGA324); Code_JEDEC: MS-034-AAG-1; Code_IPC: BGA100P18X18-324; ComponentLink1Description: Manufacturer Link; ComponentLink1URL: http://www.altera.com/products/devices/apex/apx-index.html; ComponentLink2Description: Datasheet; ComponentLink2URL: http://www.altera.com/literature/ds/apex.pdf
footprint FBGA324 (BGA, 324-Leads, Body 19x19mm, Pitch 1mm)
3D model EP20K100E-FBGA324 (324-Ball FineLine Ball Grid Array (FBGA324))
part A pins: A2 IO (333) (io), A3 IO (327) (io), A4 IO (323) (io), A5 IO (319) (io), A6 IO (314) (io), A7 IO (308) (io), A8 IO (307) (io), A18 IO (253) (io), B2 IO/DATA5 (334) (io), B3 IO (332) (io), B4 IO (325) (io), B5 IO (320) (io), B6 IO/DATA3 (326) (io), B7 IO (315) (io), B8 IO (305) (io), B9 FAST2 (299) (io), B17 IO (252) (io), B18 IO (250) (io), C5 IO/DATA4 (330) (io), C6 IO (328) (io), C7 IO (318) (io), C8 IO (316) (io), C16 IO (251) (io), C17 IO (247) (io), C18 IO (241) (io), D6 IO (329) (io), D7 IO (322) (io), D8 IO (311) (io), D9 IO (302) (io), D10 FAST1 (292) (io), D16 IO (242) (io), D17 IO (246) (io), D18 IO (244) (io), E6 VCCIO1 (power), E7 IO (331) (io), E8 IO/DATA2 (317) (io), E9 IO (309) (io), E10 IO/RDYnBSY (304) (io), E11 IO/INIT_DONE (303) (io), E16 IO (240) (io), E17 IO (248) (io), E18 IO (245) (io), F8 IO (321) (io), F9 IO/DATA1 (310) (io), F10 IO/CLKUSR (306) (io), F15 IO (239) (io), F16 IO (235) (io), F17 IO (234) (io), F18 IO (238) (io), G1 IO (67) (io), G3 IO (62) (io), G5 IO (63) (io), G8 VCCIO1 (power), G13 VCCIO3 (power), G14 IO (233) (io), G15 IO (232) (io), G16 IO (221) (io), G17 IO (231) (io), G18 IO (229) (io), H1 IO (69) (io), H2 IO (57) (io), H3 IO (66) (io), H4 IO (56) (io), H13 IO (222) (io), H14 IO (225) (io), H17 IO (226) (io), H18 IO (227) (io), J11 VCCIO3 (power), J14 IO (217) (io), J15 IO (219) (io), J18 IO (220) (io), K1 IO (71) (io), K4 IO (68) (io), K18 IO (216) (io), L1 IO (72) (io), L4 IO/DEV_OE (53) (io), L9 VCCIO7 (power), L12 VCCIO5 (power), L16 IO (215) (io), L17 IO (213) (io), L18 IO (228) (io), M1 IO (73) (io), M10 IO (146) (io), M18 IO (223) (io), N1 IO (74) (io), N2 IO/LOCK2 (61) (io), N3 IO/CLKLK_OUT2n (60) (io), N7 VCCIO7 (power), N10 IO (141) (io), N11 IO (151) (io), N14 VCCIO5 (power), N18 IO (214) (io), P1 IO (78) (io), P6 VCCIO7 (power), P10 IO (138) (io), P11 IO (142) (io), P12 IO (153) (io), R1 IO (75) (io), R2 IO (77) (io), R3 IO/LOCK4 (65) (io), R11 IO (144) (io), R12 IO (150) (io), R13 IO (160) (io), R14 IO (162) (io), R16 IO (165) (io), T1 IO (79) (io), T2 IO (84) (io), T9 FAST4 (125) (io), T10 FAST3 (134) (io), T11 IO (140) (io), T12 IO (149) (io), T13 IO (156) (io), T14 IO (161) (io), T15 IO (164) (io), T16 IO (166) (io), U1 IO (81) (io), U2 IO (85) (io), U3 IO (86) (io), U12 IO (148) (io), U13 IO (154) (io), U14 IO (157) (io), U15 IO (163) (io), U16 IO (169) (io), V1 IO (80) (io), V2 IO (87) (io), V9 IO (137) (io), V10 IO (139) (io), V11 IO (143) (io), V12 IO (145) (io), V13 IO (152) (io), V14 IO (155) (io), V15 IO (168) (io), V16 IO (167) (io)
part B pins: A1 IO (1) (io), A9 IO (284) (io), A10 IO (282) (io), A11 IO (280) (io), A12 IO (276) (io), A13 IO (269) (io), A14 IO (267) (io), A15 IO (262) (io), A16 IO (258) (io), A17 IO (256) (io), B1 IO (2) (io), B11 IO (281) (io), B12 IO (274) (io), B13 IO (270) (io), B14 IO (268) (io), B15 IO (261) (io), B16 IO (257) (io), C1 IO (3) (io), C2 IO (7) (io), C3 IO (9) (io), C4 IO (5) (io), C11 IO (287) (io), C12 IO (277) (io), C13 IO (272) (io), C14 IO (265) (io), C15 IO (260) (io), D1 IO (8) (io), D2 IO (11) (io), D3 IO (10) (io), D5 IO (15) (io), D11 IO (283) (io), D12 IO (279) (io), D13 IO (273) (io), D14 IO (264) (io), E1 IO (14) (io), E2 IO (20) (io), E3 IO (22) (io), E4 IO (16) (io), E12 IO (289) (io), E13 IO (275) (io), E15 IO (259) (io), F1 IO (19) (io), F2 IO (27) (io), F3 IO (13) (io), F4 IO (26) (io), F5 VCCIO8 (power), F11 IO (288) (io), F12 VCCIO2 (power), F14 IO (263) (io), G2 IO (21) (io), G4 IO/DATA6 (17) (io), G10 IO (286) (io), H5 IO/nCS (29) (io), H6 IO/DATA7 (23) (io), H7 VCCIO8 (power), H10 VCCIO2 (power), H15 CLK3p (205) (in), H16 IO/CLK3n (204) (io), J1 IO (34) (io), J4 CLK2p (45) (in), J5 IO/CLK2n (42) (io), J6 IO/nRS (28) (io), J12 IO (197) (io), J13 IO (202) (io), K5 IO/nWS (25) (io), K8 VCCIO6 (power), K13 IO (193) (io), K14 IO (200) (io), K15 IO/CLK1n (206) (io), K16 CLK1p (210) (in), L2 CLK4p (41) (in), L3 IO/CLK4n (40) (io), L5 IO/DEV_CLRn (36) (io), L13 IO (190) (io), L14 IO (194) (io), L15 IO (199) (io), M2 IO/CS (35) (io), M4 IO/CLKLK_FB2n (38) (io), M5 IO (94) (io), M6 VCCIO6 (power), M9 IO (115) (io), M11 VCCIO4 (power), M14 IO (180) (io), M15 IO (191) (io), M16 IO (196) (io), M17 IO (203) (io), N8 IO (120) (io), N9 IO (119) (io), N15 IO (175) (io), N16 IO (188) (io), N17 IO (192) (io), P4 IO (93) (io), P7 IO (106) (io), P8 IO (112) (io), P9 IO (122) (io), P13 VCCIO4 (power), P15 IO (179) (io), P16 IO (182) (io), P17 IO (184) (io), P18 IO (198) (io), R5 IO (99) (io), R6 IO (102) (io), R7 IO (110) (io), R8 IO (113) (io), R9 IO (121) (io), R10 IO (116) (io), R17 IO (181) (io), R18 IO (186) (io), T3 IO (91) (io), T4 IO (97) (io), T5 IO (98) (io), T6 IO (103) (io), T7 IO (109) (io), T8 IO (114) (io), T17 IO (185) (io), T18 IO (173) (io), U4 IO (96) (io), U5 IO (95) (io), U6 IO (104) (io), U7 IO (108) (io), U17 IO (172) (io), U18 IO (187) (io), V3 IO (90) (io), V4 IO (92) (io), V5 IO (101) (io), V6 IO (107) (io), V7 IO (105) (io), V8 IO (117) (io), V17 IO (174) (io), V18 IO (178) (io)
part C pins: B10 TRST (290) (in), C9 TDO (300) (out), C10 nCEO (291) (out), J2 DATA0 (43) (in), J3 DCLK (44) (in), J16 MSEL1 (211) (in), J17 MSEL0 (212) (in), K2 nCE (46) (in), K3 TDI (47) (in), K12 CLKLK_ENA (209) (in), K17 nCONFIG (208) (in), M3 CLKLK_OUT2p (59) (out), N4 CLKLK_FB2p (39) (in), U8 CONF_DONE (123) (io), U9 nSTATUS (124) (io), U10 TCK (135) (in), U11 TMS (136) (in)
part D pins: D4 GND (power), D15 GND (power), E5 GND (power), E14 GND (power), F6 GND (power), F7 VCCINT (power), F13 GND (power), G6 VCCINT (power), G7 GND (power), G9 GND (power), G11 VCCINT (power), G12 GND (power), H8 GND (power), H9 VCCINT (power), H11 GND (power), H12 VCCINT (power), J7 VCC_CKLK2 (52) (power), J8 VCCINT (power), J9 GND (power), J10 GND (power), K6 VCC_CKLK4 (31) (power), K7 GND_CKLK2 (49/50) (power), K9 GND (power), K10 GND (power), K11 VCCINT (power), L6 GND_CKLK4 (32/33) (power), L7 VCCINT (power), L8 GND (power), L10 VCCINT (power), L11 GND (power), M7 GND (power), M8 VCCINT (power), M12 GND (power), M13 VCCINT (power), N5 VCCINT (power), N6 GND (power), N12 VCCINT (power), N13 GND (power), P2 GND_CKOUT2 (55) (power), P3 VCC_CKOUT2 (54) (power), P5 GND (power), P14 GND (power), R4 GND (power), R15 GND (power)

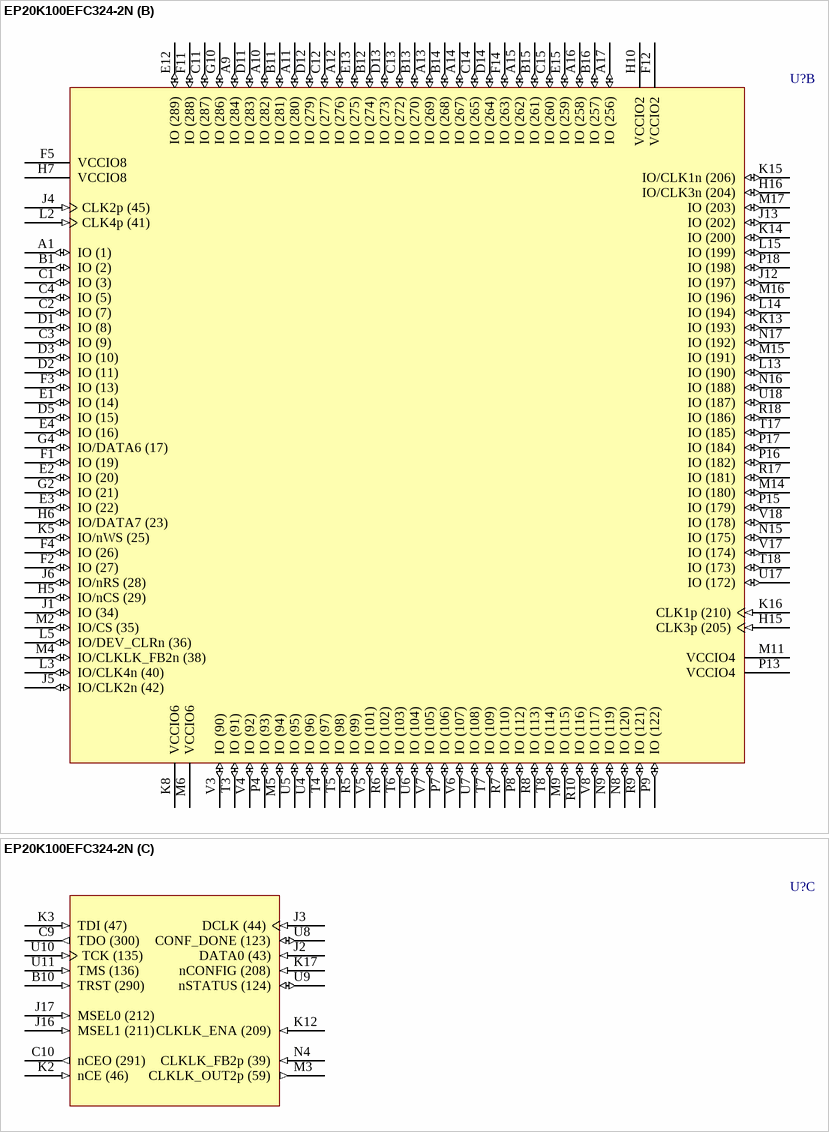
[diagram p85: symbol EP20K100EFC324-2N]

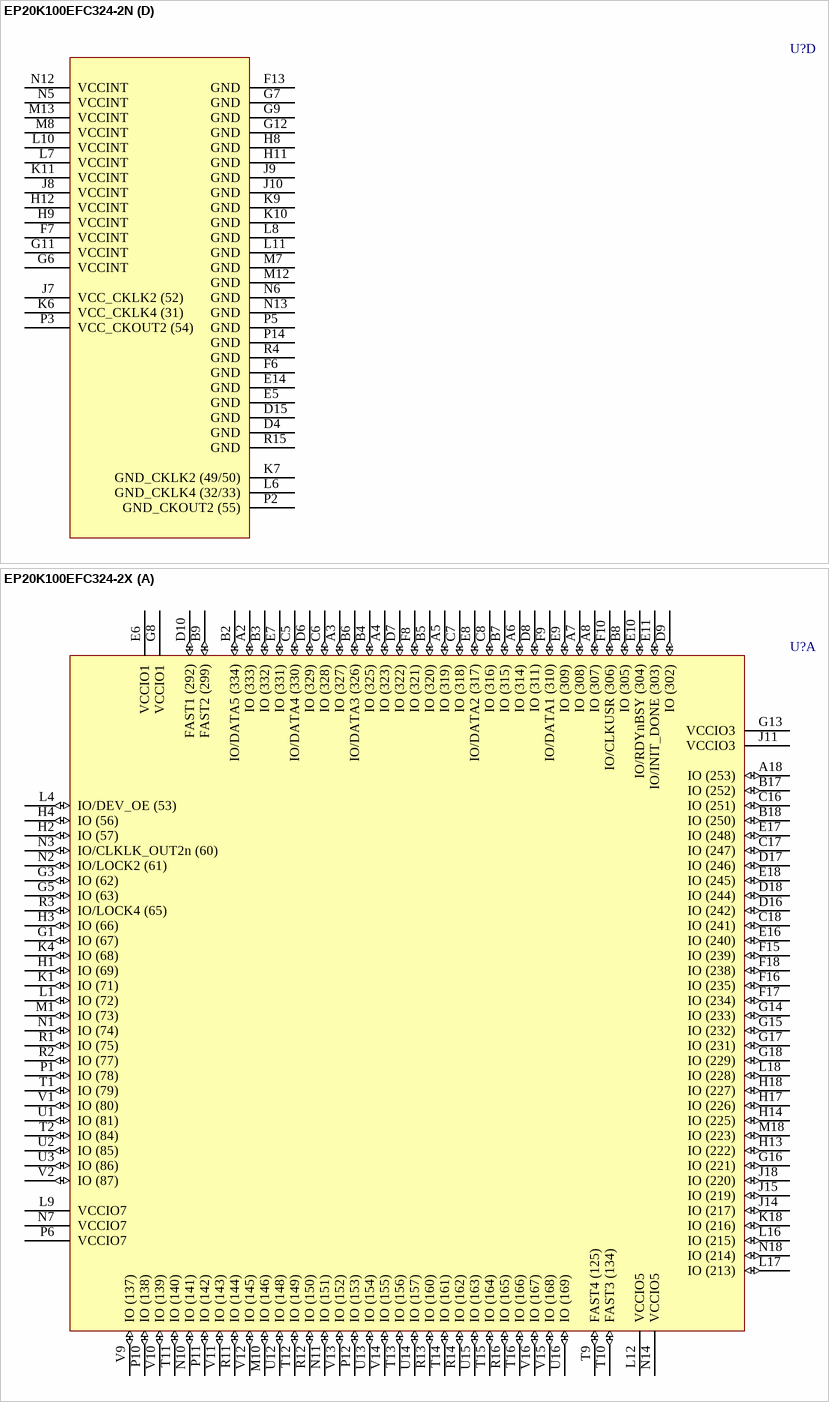
[diagram p86: symbols EP20K100EFC324-2N to EP20K100EFC324-2X]

## EP20K100EFC324-2N
designator U?
APEX 20K100E PLD, 324-Pin FBGA, Pb-Free, Commercial Grade, Speed Grade 2; Published: 4-Mar-2005; LatestRevisionDate: 13-Apr-2006; LatestRevisionNote: IPC-7351 Footprint Added.; DatasheetVersion: Mar-2004; PackageVersion: ver14.1, Oct-2005; PackageReference: FBGA324; Publisher: Altium Limited; PackageDescription: 324-Ball FineLine Ball Grid Array (FBGA324); Code_JEDEC: MS-034-AAG-1; Code_IPC: BGA100P18X18-324; ComponentLink1Description: Manufacturer Link; ComponentLink1URL: http://www.altera.com/products/devices/apex/apx-index.html; ComponentLink2Description: Datasheet; ComponentLink2URL: http://www.altera.com/literature/ds/apex.pdf
footprint FBGA324 (BGA, 324-Leads, Body 19x19mm, Pitch 1mm)
3D model EP20K100E-FBGA324 (324-Ball FineLine Ball Grid Array (FBGA324))
part A pins: A2 IO (333) (io), A3 IO (327) (io), A4 IO (323) (io), A5 IO (319) (io), A6 IO (314) (io), A7 IO (308) (io), A8 IO (307) (io), A18 IO (253) (io), B2 IO/DATA5 (334) (io), B3 IO (332) (io), B4 IO (325) (io), B5 IO (320) (io), B6 IO/DATA3 (326) (io), B7 IO (315) (io), B8 IO (305) (io), B9 FAST2 (299) (io), B17 IO (252) (io), B18 IO (250) (io), C5 IO/DATA4 (330) (io), C6 IO (328) (io), C7 IO (318) (io), C8 IO (316) (io), C16 IO (251) (io), C17 IO (247) (io), C18 IO (241) (io), D6 IO (329) (io), D7 IO (322) (io), D8 IO (311) (io), D9 IO (302) (io), D10 FAST1 (292) (io), D16 IO (242) (io), D17 IO (246) (io), D18 IO (244) (io), E6 VCCIO1 (power), E7 IO (331) (io), E8 IO/DATA2 (317) (io), E9 IO (309) (io), E10 IO/RDYnBSY (304) (io), E11 IO/INIT_DONE (303) (io), E16 IO (240) (io), E17 IO (248) (io), E18 IO (245) (io), F8 IO (321) (io), F9 IO/DATA1 (310) (io), F10 IO/CLKUSR (306) (io), F15 IO (239) (io), F16 IO (235) (io), F17 IO (234) (io), F18 IO (238) (io), G1 IO (67) (io), G3 IO (62) (io), G5 IO (63) (io), G8 VCCIO1 (power), G13 VCCIO3 (power), G14 IO (233) (io), G15 IO (232) (io), G16 IO (221) (io), G17 IO (231) (io), G18 IO (229) (io), H1 IO (69) (io), H2 IO (57) (io), H3 IO (66) (io), H4 IO (56) (io), H13 IO (222) (io), H14 IO (225) (io), H17 IO (226) (io), H18 IO (227) (io), J11 VCCIO3 (power), J14 IO (217) (io), J15 IO (219) (io), J18 IO (220) (io), K1 IO (71) (io), K4 IO (68) (io), K18 IO (216) (io), L1 IO (72) (io), L4 IO/DEV_OE (53) (io), L9 VCCIO7 (power), L12 VCCIO5 (power), L16 IO (215) (io), L17 IO (213) (io), L18 IO (228) (io), M1 IO (73) (io), M10 IO (146) (io), M18 IO (223) (io), N1 IO (74) (io), N2 IO/LOCK2 (61) (io), N3 IO/CLKLK_OUT2n (60) (io), N7 VCCIO7 (power), N10 IO (141) (io), N11 IO (151) (io), N14 VCCIO5 (power), N18 IO (214) (io), P1 IO (78) (io), P6 VCCIO7 (power), P10 IO (138) (io), P11 IO (142) (io), P12 IO (153) (io), R1 IO (75) (io), R2 IO (77) (io), R3 IO/LOCK4 (65) (io), R11 IO (144) (io), R12 IO (150) (io), R13 IO (160) (io), R14 IO (162) (io), R16 IO (165) (io), T1 IO (79) (io), T2 IO (84) (io), T9 FAST4 (125) (io), T10 FAST3 (134) (io), T11 IO (140) (io), T12 IO (149) (io), T13 IO (156) (io), T14 IO (161) (io), T15 IO (164) (io), T16 IO (166) (io), U1 IO (81) (io), U2 IO (85) (io), U3 IO (86) (io), U12 IO (148) (io), U13 IO (154) (io), U14 IO (157) (io), U15 IO (163) (io), U16 IO (169) (io), V1 IO (80) (io), V2 IO (87) (io), V9 IO (137) (io), V10 IO (139) (io), V11 IO (143) (io), V12 IO (145) (io), V13 IO (152) (io), V14 IO (155) (io), V15 IO (168) (io), V16 IO (167) (io)
part B pins: A1 IO (1) (io), A9 IO (284) (io), A10 IO (282) (io), A11 IO (280) (io), A12 IO (276) (io), A13 IO (269) (io), A14 IO (267) (io), A15 IO (262) (io), A16 IO (258) (io), A17 IO (256) (io), B1 IO (2) (io), B11 IO (281) (io), B12 IO (274) (io), B13 IO (270) (io), B14 IO (268) (io), B15 IO (261) (io), B16 IO (257) (io), C1 IO (3) (io), C2 IO (7) (io), C3 IO (9) (io), C4 IO (5) (io), C11 IO (287) (io), C12 IO (277) (io), C13 IO (272) (io), C14 IO (265) (io), C15 IO (260) (io), D1 IO (8) (io), D2 IO (11) (io), D3 IO (10) (io), D5 IO (15) (io), D11 IO (283) (io), D12 IO (279) (io), D13 IO (273) (io), D14 IO (264) (io), E1 IO (14) (io), E2 IO (20) (io), E3 IO (22) (io), E4 IO (16) (io), E12 IO (289) (io), E13 IO (275) (io), E15 IO (259) (io), F1 IO (19) (io), F2 IO (27) (io), F3 IO (13) (io), F4 IO (26) (io), F5 VCCIO8 (power), F11 IO (288) (io), F12 VCCIO2 (power), F14 IO (263) (io), G2 IO (21) (io), G4 IO/DATA6 (17) (io), G10 IO (286) (io), H5 IO/nCS (29) (io), H6 IO/DATA7 (23) (io), H7 VCCIO8 (power), H10 VCCIO2 (power), H15 CLK3p (205) (in), H16 IO/CLK3n (204) (io), J1 IO (34) (io), J4 CLK2p (45) (in), J5 IO/CLK2n (42) (io), J6 IO/nRS (28) (io), J12 IO (197) (io), J13 IO (202) (io), K5 IO/nWS (25) (io), K8 VCCIO6 (power), K13 IO (193) (io), K14 IO (200) (io), K15 IO/CLK1n (206) (io), K16 CLK1p (210) (in), L2 CLK4p (41) (in), L3 IO/CLK4n (40) (io), L5 IO/DEV_CLRn (36) (io), L13 IO (190) (io), L14 IO (194) (io), L15 IO (199) (io), M2 IO/CS (35) (io), M4 IO/CLKLK_FB2n (38) (io), M5 IO (94) (io), M6 VCCIO6 (power), M9 IO (115) (io), M11 VCCIO4 (power), M14 IO (180) (io), M15 IO (191) (io), M16 IO (196) (io), M17 IO (203) (io), N8 IO (120) (io), N9 IO (119) (io), N15 IO (175) (io), N16 IO (188) (io), N17 IO (192) (io), P4 IO (93) (io), P7 IO (106) (io), P8 IO (112) (io), P9 IO (122) (io), P13 VCCIO4 (power), P15 IO (179) (io), P16 IO (182) (io), P17 IO (184) (io), P18 IO (198) (io), R5 IO (99) (io), R6 IO (102) (io), R7 IO (110) (io), R8 IO (113) (io), R9 IO (121) (io), R10 IO (116) (io), R17 IO (181) (io), R18 IO (186) (io), T3 IO (91) (io), T4 IO (97) (io), T5 IO (98) (io), T6 IO (103) (io), T7 IO (109) (io), T8 IO (114) (io), T17 IO (185) (io), T18 IO (173) (io), U4 IO (96) (io), U5 IO (95) (io), U6 IO (104) (io), U7 IO (108) (io), U17 IO (172) (io), U18 IO (187) (io), V3 IO (90) (io), V4 IO (92) (io), V5 IO (101) (io), V6 IO (107) (io), V7 IO (105) (io), V8 IO (117) (io), V17 IO (174) (io), V18 IO (178) (io)
part C pins: B10 TRST (290) (in), C9 TDO (300) (out), C10 nCEO (291) (out), J2 DATA0 (43) (in), J3 DCLK (44) (in), J16 MSEL1 (211) (in), J17 MSEL0 (212) (in), K2 nCE (46) (in), K3 TDI (47) (in), K12 CLKLK_ENA (209) (in), K17 nCONFIG (208) (in), M3 CLKLK_OUT2p (59) (out), N4 CLKLK_FB2p (39) (in), U8 CONF_DONE (123) (io), U9 nSTATUS (124) (io), U10 TCK (135) (in), U11 TMS (136) (in)
part D pins: D4 GND (power), D15 GND (power), E5 GND (power), E14 GND (power), F6 GND (power), F7 VCCINT (power), F13 GND (power), G6 VCCINT (power), G7 GND (power), G9 GND (power), G11 VCCINT (power), G12 GND (power), H8 GND (power), H9 VCCINT (power), H11 GND (power), H12 VCCINT (power), J7 VCC_CKLK2 (52) (power), J8 VCCINT (power), J9 GND (power), J10 GND (power), K6 VCC_CKLK4 (31) (power), K7 GND_CKLK2 (49/50) (power), K9 GND (power), K10 GND (power), K11 VCCINT (power), L6 GND_CKLK4 (32/33) (power), L7 VCCINT (power), L8 GND (power), L10 VCCINT (power), L11 GND (power), M7 GND (power), M8 VCCINT (power), M12 GND (power), M13 VCCINT (power), N5 VCCINT (power), N6 GND (power), N12 VCCINT (power), N13 GND (power), P2 GND_CKOUT2 (55) (power), P3 VCC_CKOUT2 (54) (power), P5 GND (power), P14 GND (power), R4 GND (power), R15 GND (power)

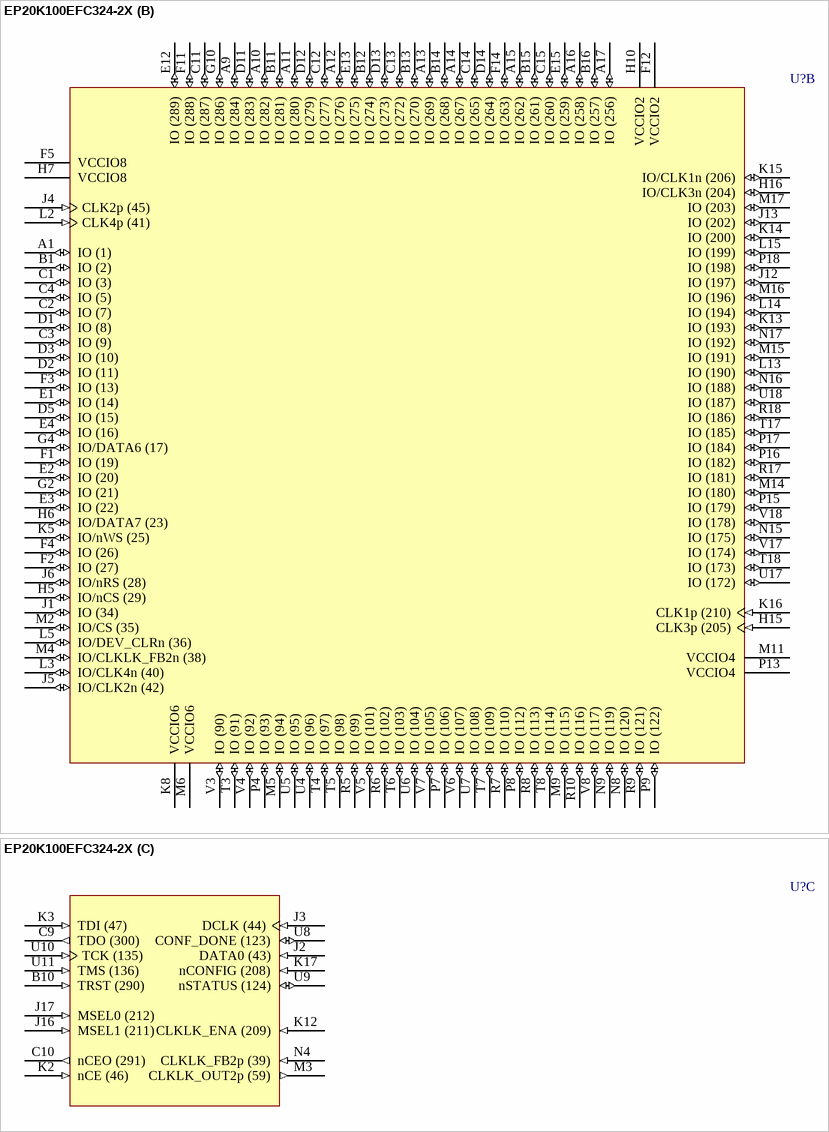
[diagram p87: symbol EP20K100EFC324-2X]

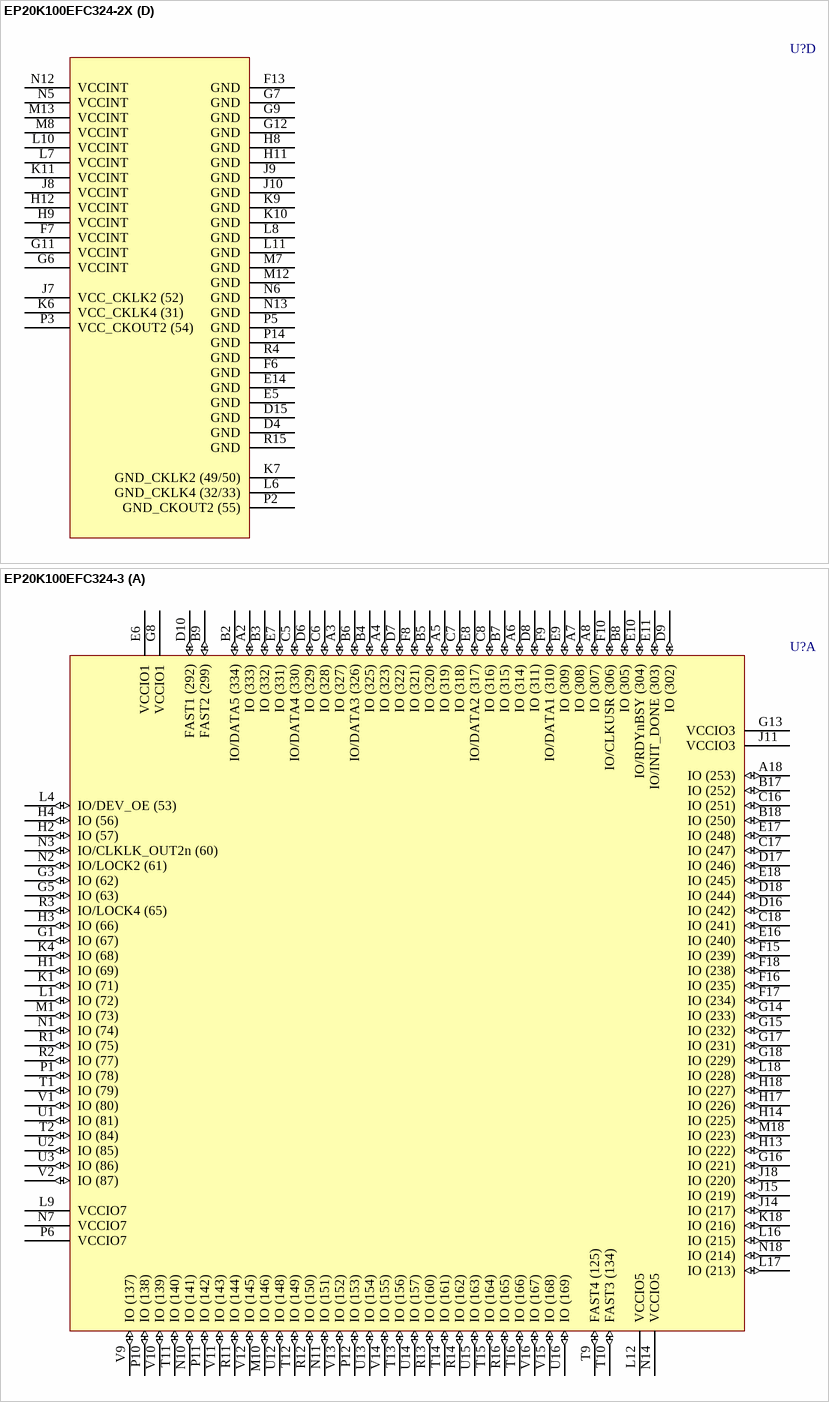
[diagram p88: symbols EP20K100EFC324-2X to EP20K100EFC324-3]

## EP20K100EFC324-2X
designator U?
APEX 20K100E PLD with PLLs and LVDS, 324-Pin FBGA, Commercial Grade, Speed Grade 2; Published: 17-Jul-2002; LatestRevisionDate: 13-Apr-2006; LatestRevisionNote: IPC-7351 Footprint Added.; DatasheetVersion: Mar-2004; PackageVersion: ver14.1, Oct-2005; PackageReference: FBGA324; Publisher: Altium Limited; PackageDescription: 324-Ball FineLine Ball Grid Array (FBGA324); Code_JEDEC: MS-034-AAG-1; Code_IPC: BGA100P18X18-324; ComponentLink1Description: Manufacturer Link; ComponentLink1URL: http://www.altera.com/products/devices/apex/apx-index.html; ComponentLink2Description: Datasheet; ComponentLink2URL: http://www.altera.com/literature/ds/apex.pdf
footprint FBGA324 (BGA, 324-Leads, Body 19x19mm, Pitch 1mm)
3D model EP20K100E-FBGA324 (324-Ball FineLine Ball Grid Array (FBGA324))
part A pins: A2 IO (333) (io), A3 IO (327) (io), A4 IO (323) (io), A5 IO (319) (io), A6 IO (314) (io), A7 IO (308) (io), A8 IO (307) (io), A18 IO (253) (io), B2 IO/DATA5 (334) (io), B3 IO (332) (io), B4 IO (325) (io), B5 IO (320) (io), B6 IO/DATA3 (326) (io), B7 IO (315) (io), B8 IO (305) (io), B9 FAST2 (299) (io), B17 IO (252) (io), B18 IO (250) (io), C5 IO/DATA4 (330) (io), C6 IO (328) (io), C7 IO (318) (io), C8 IO (316) (io), C16 IO (251) (io), C17 IO (247) (io), C18 IO (241) (io), D6 IO (329) (io), D7 IO (322) (io), D8 IO (311) (io), D9 IO (302) (io), D10 FAST1 (292) (io), D16 IO (242) (io), D17 IO (246) (io), D18 IO (244) (io), E6 VCCIO1 (power), E7 IO (331) (io), E8 IO/DATA2 (317) (io), E9 IO (309) (io), E10 IO/RDYnBSY (304) (io), E11 IO/INIT_DONE (303) (io), E16 IO (240) (io), E17 IO (248) (io), E18 IO (245) (io), F8 IO (321) (io), F9 IO/DATA1 (310) (io), F10 IO/CLKUSR (306) (io), F15 IO (239) (io), F16 IO (235) (io), F17 IO (234) (io), F18 IO (238) (io), G1 IO (67) (io), G3 IO (62) (io), G5 IO (63) (io), G8 VCCIO1 (power), G13 VCCIO3 (power), G14 IO (233) (io), G15 IO (232) (io), G16 IO (221) (io), G17 IO (231) (io), G18 IO (229) (io), H1 IO (69) (io), H2 IO (57) (io), H3 IO (66) (io), H4 IO (56) (io), H13 IO (222) (io), H14 IO (225) (io), H17 IO (226) (io), H18 IO (227) (io), J11 VCCIO3 (power), J14 IO (217) (io), J15 IO (219) (io), J18 IO (220) (io), K1 IO (71) (io), K4 IO (68) (io), K18 IO (216) (io), L1 IO (72) (io), L4 IO/DEV_OE (53) (io), L9 VCCIO7 (power), L12 VCCIO5 (power), L16 IO (215) (io), L17 IO (213) (io), L18 IO (228) (io), M1 IO (73) (io), M10 IO (146) (io), M18 IO (223) (io), N1 IO (74) (io), N2 IO/LOCK2 (61) (io), N3 IO/CLKLK_OUT2n (60) (io), N7 VCCIO7 (power), N10 IO (141) (io), N11 IO (151) (io), N14 VCCIO5 (power), N18 IO (214) (io), P1 IO (78) (io), P6 VCCIO7 (power), P10 IO (138) (io), P11 IO (142) (io), P12 IO (153) (io), R1 IO (75) (io), R2 IO (77) (io), R3 IO/LOCK4 (65) (io), R11 IO (144) (io), R12 IO (150) (io), R13 IO (160) (io), R14 IO (162) (io), R16 IO (165) (io), T1 IO (79) (io), T2 IO (84) (io), T9 FAST4 (125) (io), T10 FAST3 (134) (io), T11 IO (140) (io), T12 IO (149) (io), T13 IO (156) (io), T14 IO (161) (io), T15 IO (164) (io), T16 IO (166) (io), U1 IO (81) (io), U2 IO (85) (io), U3 IO (86) (io), U12 IO (148) (io), U13 IO (154) (io), U14 IO (157) (io), U15 IO (163) (io), U16 IO (169) (io), V1 IO (80) (io), V2 IO (87) (io), V9 IO (137) (io), V10 IO (139) (io), V11 IO (143) (io), V12 IO (145) (io), V13 IO (152) (io), V14 IO (155) (io), V15 IO (168) (io), V16 IO (167) (io)
part B pins: A1 IO (1) (io), A9 IO (284) (io), A10 IO (282) (io), A11 IO (280) (io), A12 IO (276) (io), A13 IO (269) (io), A14 IO (267) (io), A15 IO (262) (io), A16 IO (258) (io), A17 IO (256) (io), B1 IO (2) (io), B11 IO (281) (io), B12 IO (274) (io), B13 IO (270) (io), B14 IO (268) (io), B15 IO (261) (io), B16 IO (257) (io), C1 IO (3) (io), C2 IO (7) (io), C3 IO (9) (io), C4 IO (5) (io), C11 IO (287) (io), C12 IO (277) (io), C13 IO (272) (io), C14 IO (265) (io), C15 IO (260) (io), D1 IO (8) (io), D2 IO (11) (io), D3 IO (10) (io), D5 IO (15) (io), D11 IO (283) (io), D12 IO (279) (io), D13 IO (273) (io), D14 IO (264) (io), E1 IO (14) (io), E2 IO (20) (io), E3 IO (22) (io), E4 IO (16) (io), E12 IO (289) (io), E13 IO (275) (io), E15 IO (259) (io), F1 IO (19) (io), F2 IO (27) (io), F3 IO (13) (io), F4 IO (26) (io), F5 VCCIO8 (power), F11 IO (288) (io), F12 VCCIO2 (power), F14 IO (263) (io), G2 IO (21) (io), G4 IO/DATA6 (17) (io), G10 IO (286) (io), H5 IO/nCS (29) (io), H6 IO/DATA7 (23) (io), H7 VCCIO8 (power), H10 VCCIO2 (power), H15 CLK3p (205) (in), H16 IO/CLK3n (204) (io), J1 IO (34) (io), J4 CLK2p (45) (in), J5 IO/CLK2n (42) (io), J6 IO/nRS (28) (io), J12 IO (197) (io), J13 IO (202) (io), K5 IO/nWS (25) (io), K8 VCCIO6 (power), K13 IO (193) (io), K14 IO (200) (io), K15 IO/CLK1n (206) (io), K16 CLK1p (210) (in), L2 CLK4p (41) (in), L3 IO/CLK4n (40) (io), L5 IO/DEV_CLRn (36) (io), L13 IO (190) (io), L14 IO (194) (io), L15 IO (199) (io), M2 IO/CS (35) (io), M4 IO/CLKLK_FB2n (38) (io), M5 IO (94) (io), M6 VCCIO6 (power), M9 IO (115) (io), M11 VCCIO4 (power), M14 IO (180) (io), M15 IO (191) (io), M16 IO (196) (io), M17 IO (203) (io), N8 IO (120) (io), N9 IO (119) (io), N15 IO (175) (io), N16 IO (188) (io), N17 IO (192) (io), P4 IO (93) (io), P7 IO (106) (io), P8 IO (112) (io), P9 IO (122) (io), P13 VCCIO4 (power), P15 IO (179) (io), P16 IO (182) (io), P17 IO (184) (io), P18 IO (198) (io), R5 IO (99) (io), R6 IO (102) (io), R7 IO (110) (io), R8 IO (113) (io), R9 IO (121) (io), R10 IO (116) (io), R17 IO (181) (io), R18 IO (186) (io), T3 IO (91) (io), T4 IO (97) (io), T5 IO (98) (io), T6 IO (103) (io), T7 IO (109) (io), T8 IO (114) (io), T17 IO (185) (io), T18 IO (173) (io), U4 IO (96) (io), U5 IO (95) (io), U6 IO (104) (io), U7 IO (108) (io), U17 IO (172) (io), U18 IO (187) (io), V3 IO (90) (io), V4 IO (92) (io), V5 IO (101) (io), V6 IO (107) (io), V7 IO (105) (io), V8 IO (117) (io), V17 IO (174) (io), V18 IO (178) (io)
part C pins: B10 TRST (290) (in), C9 TDO (300) (out), C10 nCEO (291) (out), J2 DATA0 (43) (in), J3 DCLK (44) (in), J16 MSEL1 (211) (in), J17 MSEL0 (212) (in), K2 nCE (46) (in), K3 TDI (47) (in), K12 CLKLK_ENA (209) (in), K17 nCONFIG (208) (in), M3 CLKLK_OUT2p (59) (out), N4 CLKLK_FB2p (39) (in), U8 CONF_DONE (123) (io), U9 nSTATUS (124) (io), U10 TCK (135) (in), U11 TMS (136) (in)
part D pins: D4 GND (power), D15 GND (power), E5 GND (power), E14 GND (power), F6 GND (power), F7 VCCINT (power), F13 GND (power), G6 VCCINT (power), G7 GND (power), G9 GND (power), G11 VCCINT (power), G12 GND (power), H8 GND (power), H9 VCCINT (power), H11 GND (power), H12 VCCINT (power), J7 VCC_CKLK2 (52) (power), J8 VCCINT (power), J9 GND (power), J10 GND (power), K6 VCC_CKLK4 (31) (power), K7 GND_CKLK2 (49/50) (power), K9 GND (power), K10 GND (power), K11 VCCINT (power), L6 GND_CKLK4 (32/33) (power), L7 VCCINT (power), L8 GND (power), L10 VCCINT (power), L11 GND (power), M7 GND (power), M8 VCCINT (power), M12 GND (power), M13 VCCINT (power), N5 VCCINT (power), N6 GND (power), N12 VCCINT (power), N13 GND (power), P2 GND_CKOUT2 (55) (power), P3 VCC_CKOUT2 (54) (power), P5 GND (power), P14 GND (power), R4 GND (power), R15 GND (power)

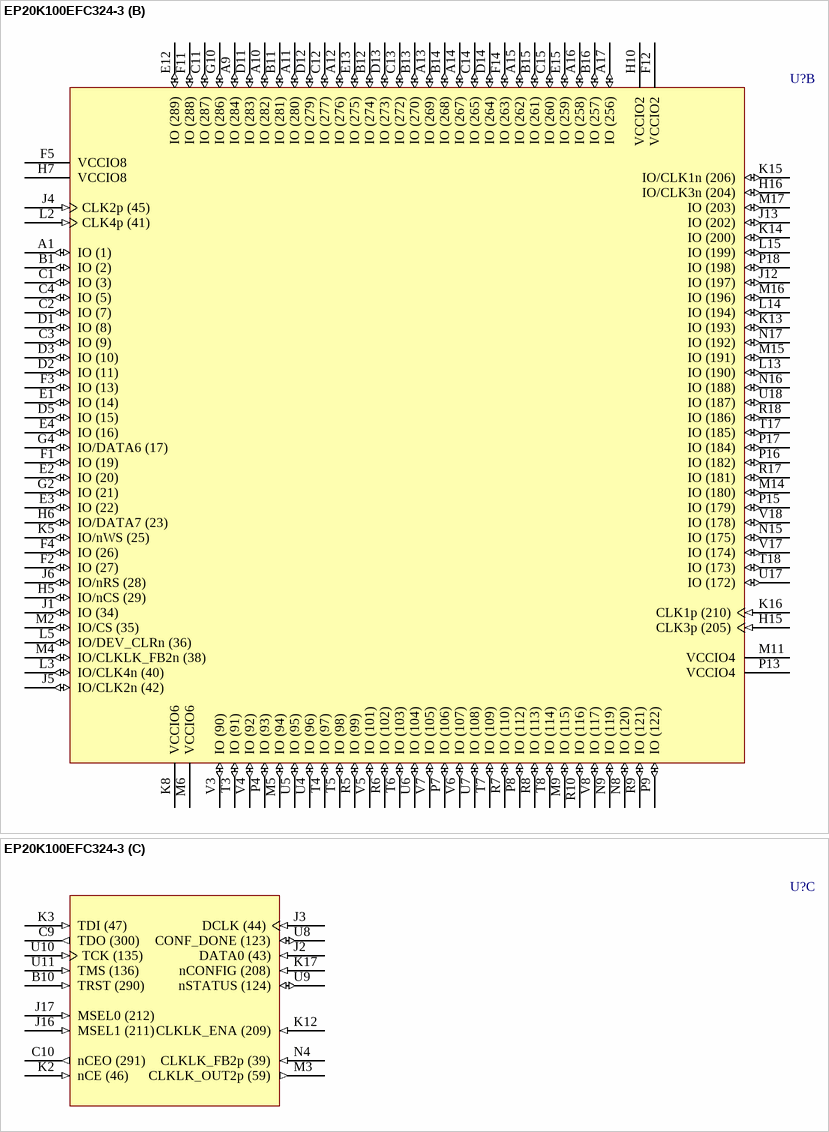
[diagram p89: symbol EP20K100EFC324-3]

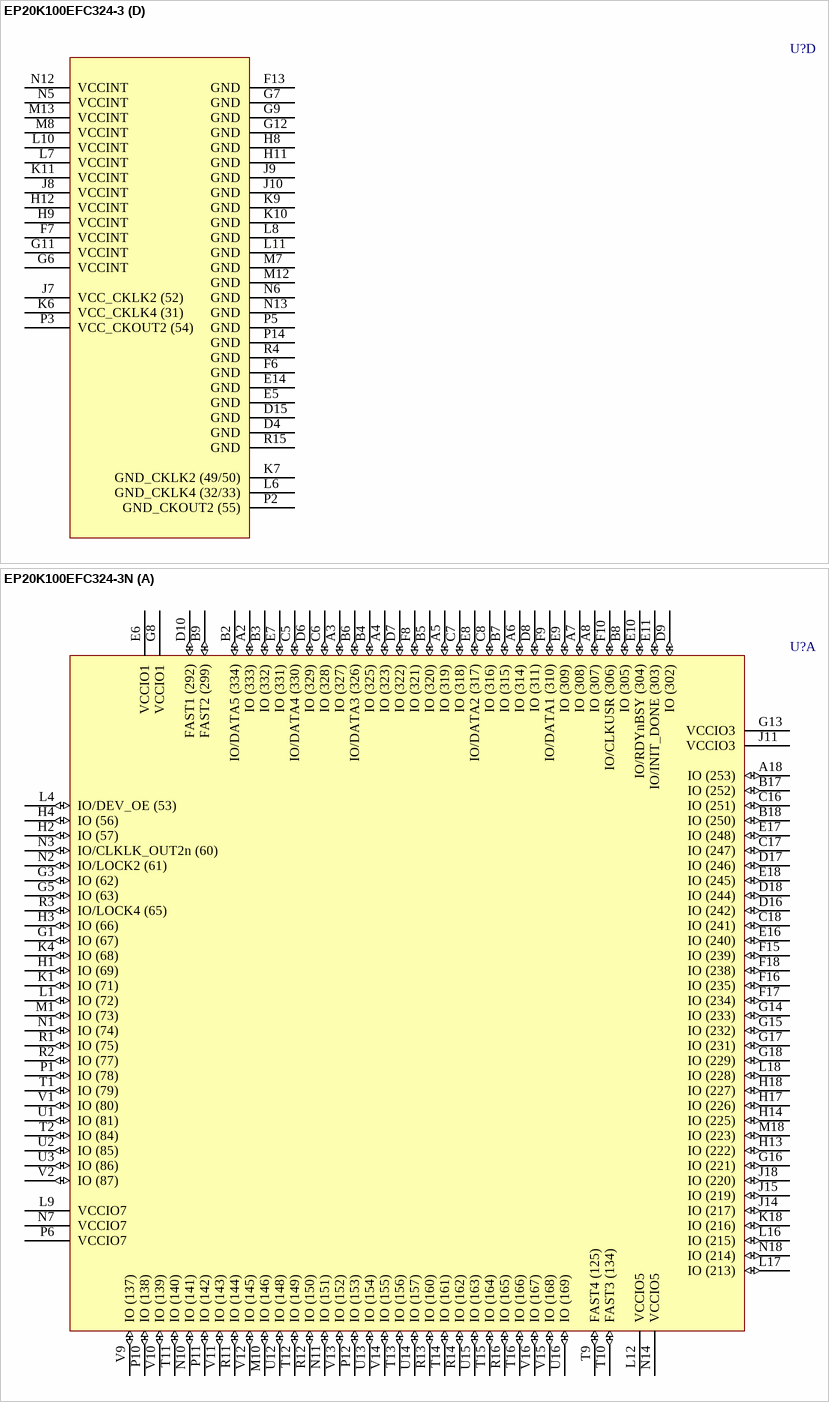
[diagram p90: symbols EP20K100EFC324-3 to EP20K100EFC324-3N]